# Altium integrated library Altera Cyclone.IntLib: 144 symbols (part 18 of 21)
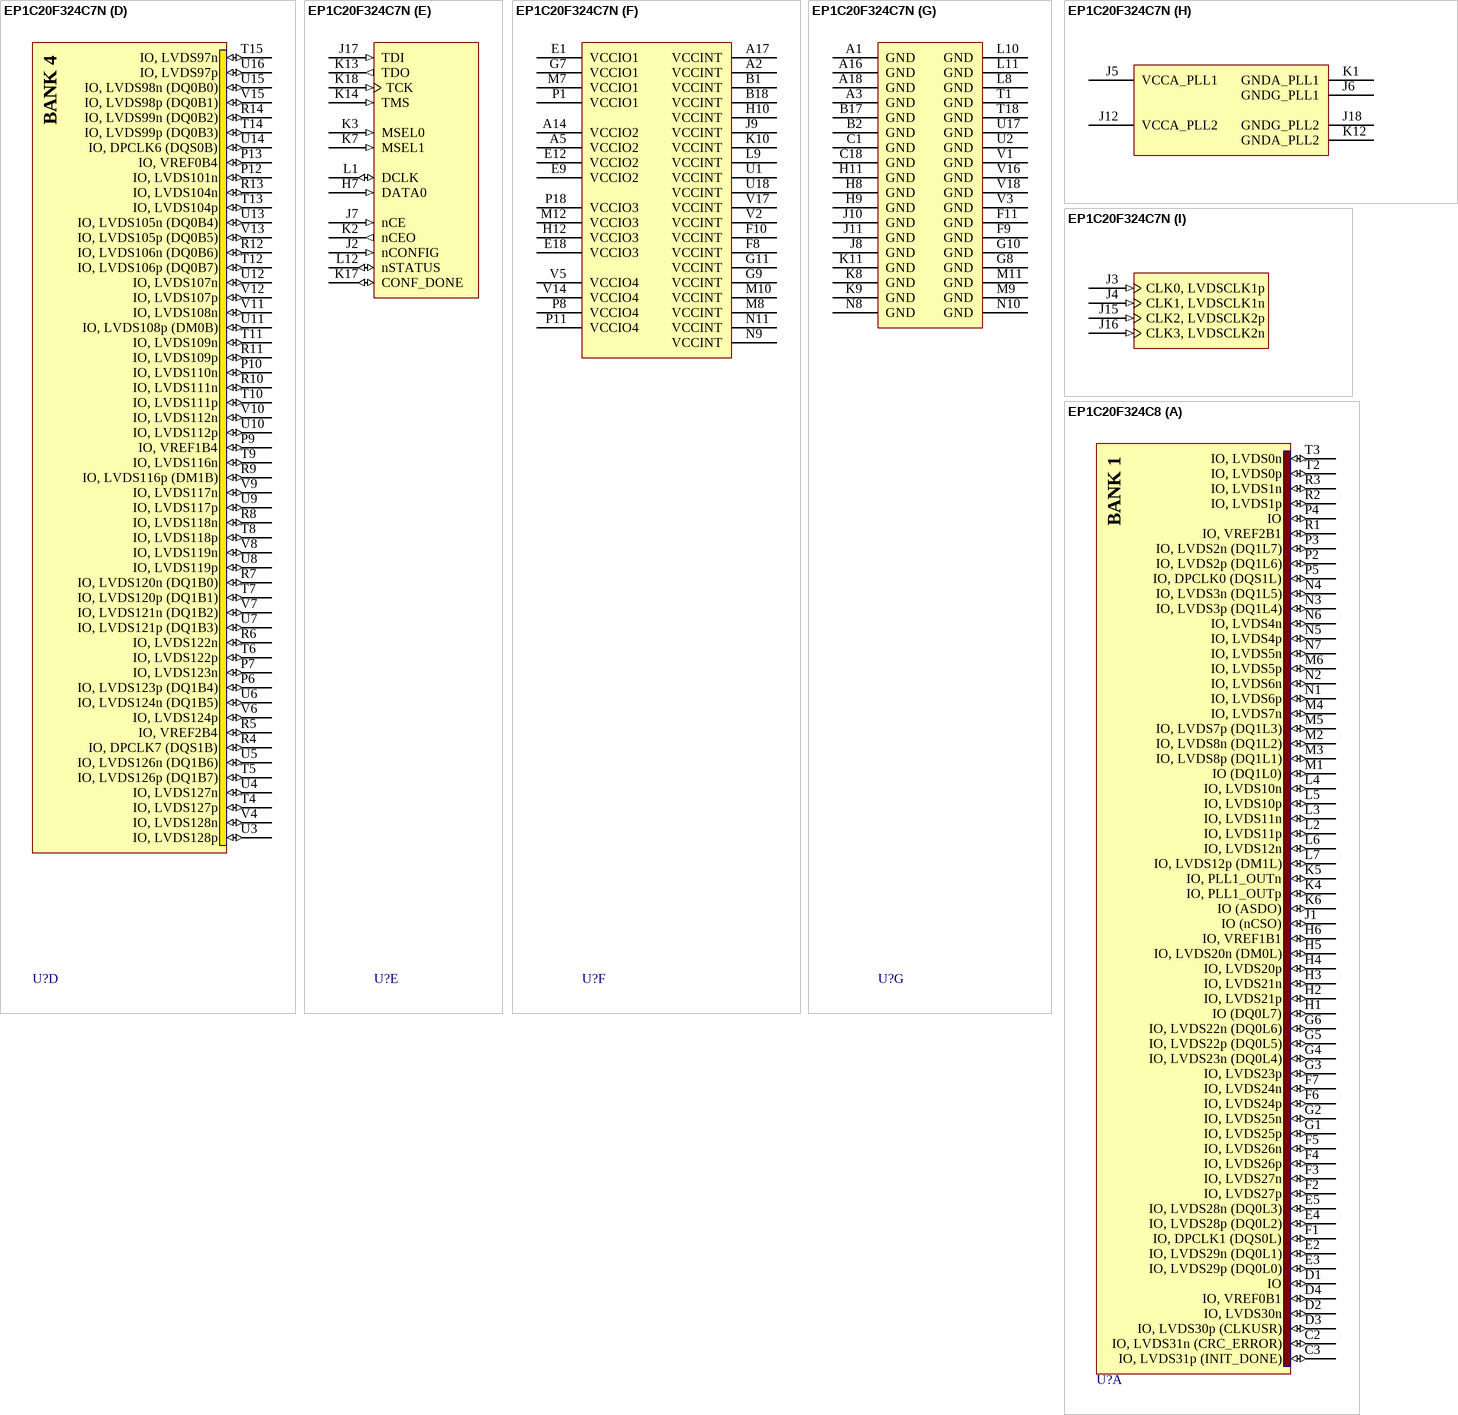
[diagram p170: symbols EP1C20F324C7N to EP1C20F324C8]

## EP1C20F324C7N
designator U?
Cyclone Family, 1.5V FPGA, 233 I/O Pins, 2 x PLLs, Commercial Grade, Speed Grade 7, Pb-Free; DatasheetVersion: ver2.4, May-2008; PackageVersion: ver16.0, Dec-2009; PackageReference: FBGA324; PackageDescription: 324-Ball FineLine Ball Grid Array (FBGA324) - Wire Bond; Code_JEDEC: MS-034-AAG-1; Code_IPC: BGA100P18X18-324; ComponentLink1Description: Manufacturer URL; ComponentLink1URL: http://www.altera.com/; ComponentLink2Description: Handbook; ComponentLink2URL: http://www.altera.com/literature/hb/cyc/cyc_c5v1.pdf; ComponentLink3Description: Package Specification; ComponentLink3URL: http://www.altera.com/literature/ds/dspkg.pdf
footprint FBGA324 (BGA, 324-Leads, Body 19x19mm, Pitch 1mm)
part A pins: C2 IO, LVDS31n (CRC_ERROR) (io), C3 IO, LVDS31p (INIT_DONE) (io), D1 IO (io), D2 IO, LVDS30n (io), D3 IO, LVDS30p (CLKUSR) (io), D4 IO, VREF0B1 (io), E2 IO, LVDS29n (DQ0L1) (io), E3 IO, LVDS29p (DQ0L0) (io), E4 IO, LVDS28p (DQ0L2) (io), E5 IO, LVDS28n (DQ0L3) (io), F1 IO, DPCLK1 (DQS0L) (io), F2 IO, LVDS27p (io), F3 IO, LVDS27n (io), F4 IO, LVDS26p (io), F5 IO, LVDS26n (io), F6 IO, LVDS24p (io), F7 IO, LVDS24n (io), G1 IO, LVDS25p (io), G2 IO, LVDS25n (io), G3 IO, LVDS23p (io), G4 IO, LVDS23n (DQ0L4) (io), G5 IO, LVDS22p (DQ0L5) (io), G6 IO, LVDS22n (DQ0L6) (io), H1 IO (DQ0L7) (io), H2 IO, LVDS21p (io), H3 IO, LVDS21n (io), H4 IO, LVDS20p (io), H5 IO, LVDS20n (DM0L) (io), H6 IO, VREF1B1 (io), J1 IO (nCSO) (io), K4 IO, PLL1_OUTp (io), K5 IO, PLL1_OUTn (io), K6 IO (ASDO) (io), L2 IO, LVDS11p (io), L3 IO, LVDS11n (io), L4 IO, LVDS10n (io), L5 IO, LVDS10p (io), L6 IO, LVDS12n (io), L7 IO, LVDS12p (DM1L) (io), M1 IO (DQ1L0) (io), M2 IO, LVDS8n (DQ1L2) (io), M3 IO, LVDS8p (DQ1L1) (io), M4 IO, LVDS7n (io), M5 IO, LVDS7p (DQ1L3) (io), M6 IO, LVDS5p (io), N1 IO, LVDS6p (io), N2 IO, LVDS6n (io), N3 IO, LVDS3p (DQ1L4) (io), N4 IO, LVDS3n (DQ1L5) (io), N5 IO, LVDS4p (io), N6 IO, LVDS4n (io), N7 IO, LVDS5n (io), P2 IO, LVDS2p (DQ1L6) (io), P3 IO, LVDS2n (DQ1L7) (io), P4 IO (io), P5 IO, DPCLK0 (DQS1L) (io), R1 IO, VREF2B1 (io), R2 IO, LVDS1p (io), R3 IO, LVDS1n (io), T2 IO, LVDS0p (io), T3 IO, LVDS0n (io)
part B pins: A4 IO, LVDS33n (DQ1T6) (io), A6 IO, VREF2B2 (io), A7 IO, LVDS39n (DQ1T2) (io), A8 IO, LVDS41n (io), A9 IO, LVDS43n (io), A10 IO, LVDS48p (io), A11 IO, LVDS51p (DM0T) (io), A12 IO, LVDS53p (io), A13 IO, LVDS56p (io), A15 IO, LVDS62p (DQ0T1) (io), B3 IO, LVDS32n (DEV_OE) (io), B4 IO, LVDS33p (DQ1T7) (io), B5 IO, DPCLK2 (DQS1T) (io), B6 IO, LVDS36n (io), B7 IO, LVDS39p (DQ1T3) (io), B8 IO, LVDS41p (io), B9 IO, LVDS43p (io), B10 IO, LVDS48n (io), B11 IO, LVDS51n (io), B12 IO, LVDS53n (io), B13 IO, LVDS56n (io), B14 IO, DPCLK3 (DQS0T) (io), B15 IO, LVDS62n (DQ0T0) (io), B16 IO, LVDS63p (io), C4 IO, LVDS32p (DEV_CLRn) (io), C5 IO, LVDS34n (DQ1T4) (io), C6 IO, LVDS36p (io), C7 IO, LVDS38p (io), C8 IO, LVDS42p (io), C9 IO, LVDS44p (io), C10 IO, LVDS49n (io), C11 IO, LVDS52n (io), C12 IO, LVDS54p (DQ0T7) (io), C13 IO, LVDS55p (DQ0T5) (io), C14 IO, VREF0B2 (io), C15 IO, LVDS61n (DQ0T2) (io), C16 IO, LVDS63n (io), D5 IO, LVDS34p (DQ1T5) (io), D6 IO, LVDS37p (io), D7 IO, LVDS38n (io), D8 IO, LVDS42n (io), D9 IO, LVDS44n (DM1T) (io), D10 IO, LVDS49p (io), D11 IO, LVDS52p (io), D12 IO, LVDS54n (DQ0T6) (io), D13 IO, LVDS55n (DQ0T4) (io), D14 IO, LVDS61p (DQ0T3) (io), E6 IO, LVDS37n (io), E7 IO, LVDS40p (DQ1T1) (io), E8 IO, LVDS40n (DQ1T0) (io), E10 IO, VREF1B2 (io), E11 IO, LVDS50n (io), E13 IO, LVDS59n (io)
part C pins: C17 IO, LVDS64n (io), D15 IO, LVDS65p (io), D16 IO, LVDS65n (io), D17 IO, LVDS64p (io), D18 IO (DQ0R0) (io), E14 IO, VREF0B3 (io), E15 IO, LVDS66p (DQ0R1) (io), E16 IO, LVDS66n (DQ0R2) (io), E17 IO, DPCLK4 (DQS0R) (io), F12 IO, LVDS70p (io), F13 IO, LVDS68n (io), F14 IO, LVDS68p (io), F15 IO, LVDS67p (DQ0R3) (io), F16 IO, LVDS67n (io), F17 IO, LVDS69p (io), F18 IO, LVDS69n (io), G12 IO, LVDS70n (io), G13 IO, LVDS72n (DQ0R4) (io), G14 IO, LVDS72p (io), G15 IO, LVDS71n (io), G16 IO, LVDS71p (io), G17 IO, LVDS73p (DQ0R5) (io), G18 IO, LVDS73n (DQ0R6) (io), H13 IO, LVDS76p (DM0R) (io), H14 IO, LVDS75n (io), H15 IO, LVDS75p (io), H16 IO, LVDS74n (io), H17 IO, LVDS74p (io), H18 IO (DQ0R7) (io), J13 IO, LVDS76n (io), J14 IO, VREF1B3 (io), K15 IO, PLL2_OUTp (io), K16 IO, PLL2_OUTn (io), L13 IO, LVDS85p (io), L14 IO (io), L15 IO, LVDS84p (io), L16 IO, LVDS84n (DM1R) (io), L17 IO, LVDS86p (io), L18 IO, LVDS86n (io), M13 IO, LVDS85n (io), M14 IO, LVDS88n (DQ1R2) (io), M15 IO, LVDS88p (DQ1R1) (io), M16 IO (DQ1R0) (io), M17 IO, LVDS89p (DQ1R3) (io), M18 IO, LVDS89n (io), N12 IO, LVDS91p (io), N13 IO, LVDS91n (io), N14 IO, LVDS93p (DQ1R4) (io), N15 IO, LVDS90p (io), N16 IO, LVDS90n (io), N17 IO, LVDS92p (io), N18 IO, LVDS92n (io), P14 IO, LVDS93n (DQ1R5) (io), P15 IO, DPCLK5 (DQS1R) (io), P16 IO, VREF2B3 (io), P17 IO (DQ1R6) (io), R15 IO, LVDS94n (DQ1R7) (io), R16 IO, LVDS94p (io), R17 IO, LVDS95n (io), R18 IO, LVDS95p (io), T16 IO, LVDS96n (io), T17 IO, LVDS96p (io)
part D pins: P6 IO, LVDS123p (DQ1B4) (io), P7 IO, LVDS123n (io), P9 IO, VREF1B4 (io), P10 IO, LVDS110n (io), P12 IO, LVDS101n (io), P13 IO, VREF0B4 (io), R4 IO, DPCLK7 (DQS1B) (io), R5 IO, VREF2B4 (io), R6 IO, LVDS122n (io), R7 IO, LVDS120n (DQ1B0) (io), R8 IO, LVDS118n (io), R9 IO, LVDS116p (DM1B) (io), R10 IO, LVDS111n (io), R11 IO, LVDS109p (io), R12 IO, LVDS106n (DQ0B6) (io), R13 IO, LVDS104n (io), R14 IO, LVDS99n (DQ0B2) (io), T4 IO, LVDS127p (io), T5 IO, LVDS126p (DQ1B7) (io), T6 IO, LVDS122p (io), T7 IO, LVDS120p (DQ1B1) (io), T8 IO, LVDS118p (io), T9 IO, LVDS116n (io), T10 IO, LVDS111p (io), T11 IO, LVDS109n (io), T12 IO, LVDS106p (DQ0B7) (io), T13 IO, LVDS104p (io), T14 IO, LVDS99p (DQ0B3) (io), T15 IO, LVDS97n (io), U3 IO, LVDS128p (io), U4 IO, LVDS127n (io), U5 IO, LVDS126n (DQ1B6) (io), U6 IO, LVDS124n (DQ1B5) (io), U7 IO, LVDS121p (DQ1B3) (io), U8 IO, LVDS119p (io), U9 IO, LVDS117p (io), U10 IO, LVDS112p (io), U11 IO, LVDS108p (DM0B) (io), U12 IO, LVDS107n (io), U13 IO, LVDS105n (DQ0B4) (io), U14 IO, DPCLK6 (DQS0B) (io), U15 IO, LVDS98n (DQ0B0) (io), U16 IO, LVDS97p (io), V4 IO, LVDS128n (io), V6 IO, LVDS124p (io), V7 IO, LVDS121n (DQ1B2) (io), V8 IO, LVDS119n (io), V9 IO, LVDS117n (io), V10 IO, LVDS112n (io), V11 IO, LVDS108n (io), V12 IO, LVDS107p (io), V13 IO, LVDS105p (DQ0B5) (io), V15 IO, LVDS98p (DQ0B1) (io)
part E pins: H7 DATA0 (in), J2 nCONFIG (in), J7 nCE (in), J17 TDI (in), K2 nCEO (out), K3 MSEL0 (in), K7 MSEL1 (in), K13 TDO (out), K14 TMS (in), K17 CONF_DONE (io), K18 TCK (in), L1 DCLK (io), L12 nSTATUS (io)
part F pins: A2 VCCINT (power), A5 VCCIO2 (power), A14 VCCIO2 (power), A17 VCCINT (power), B1 VCCINT (power), B18 VCCINT (power), E1 VCCIO1 (power), E9 VCCIO2 (power), E12 VCCIO2 (power), E18 VCCIO3 (power), F8 VCCINT (power), F10 VCCINT (power), G7 VCCIO1 (power), G9 VCCINT (power), G11 VCCINT (power), H10 VCCINT (power), H12 VCCIO3 (power), J9 VCCINT (power), K10 VCCINT (power), L9 VCCINT (power), M7 VCCIO1 (power), M8 VCCINT (power), M10 VCCINT (power), M12 VCCIO3 (power), N9 VCCINT (power), N11 VCCINT (power), P1 VCCIO1 (power), P8 VCCIO4 (power), P11 VCCIO4 (power), P18 VCCIO3 (power), U1 VCCINT (power), U18 VCCINT (power), V2 VCCINT (power), V5 VCCIO4 (power), V14 VCCIO4 (power), V17 VCCINT (power)
part G pins: A1 GND (power), A3 GND (power), A16 GND (power), A18 GND (power), B2 GND (power), B17 GND (power), C1 GND (power), C18 GND (power), F9 GND (power), F11 GND (power), G8 GND (power), G10 GND (power), H8 GND (power), H9 GND (power), H11 GND (power), J8 GND (power), J10 GND (power), J11 GND (power), K8 GND (power), K9 GND (power), K11 GND (power), L8 GND (power), L10 GND (power), L11 GND (power), M9 GND (power), M11 GND (power), N8 GND (power), N10 GND (power), T1 GND (power), T18 GND (power), U2 GND (power), U17 GND (power), V1 GND (power), V3 GND (power), V16 GND (power), V18 GND (power)
part H pins: J5 VCCA_PLL1 (power), J6 GNDG_PLL1 (power), J12 VCCA_PLL2 (power), J18 GNDG_PLL2 (power), K1 GNDA_PLL1 (power), K12 GNDA_PLL2 (power)
part I pins: J3 CLK0, LVDSCLK1p (in), J4 CLK1, LVDSCLK1n (in), J15 CLK2, LVDSCLK2p (in), J16 CLK3, LVDSCLK2n (in)
part A text: BANK 1
part B text: BANK 2
part C text: BANK 3
part D text: BANK 4

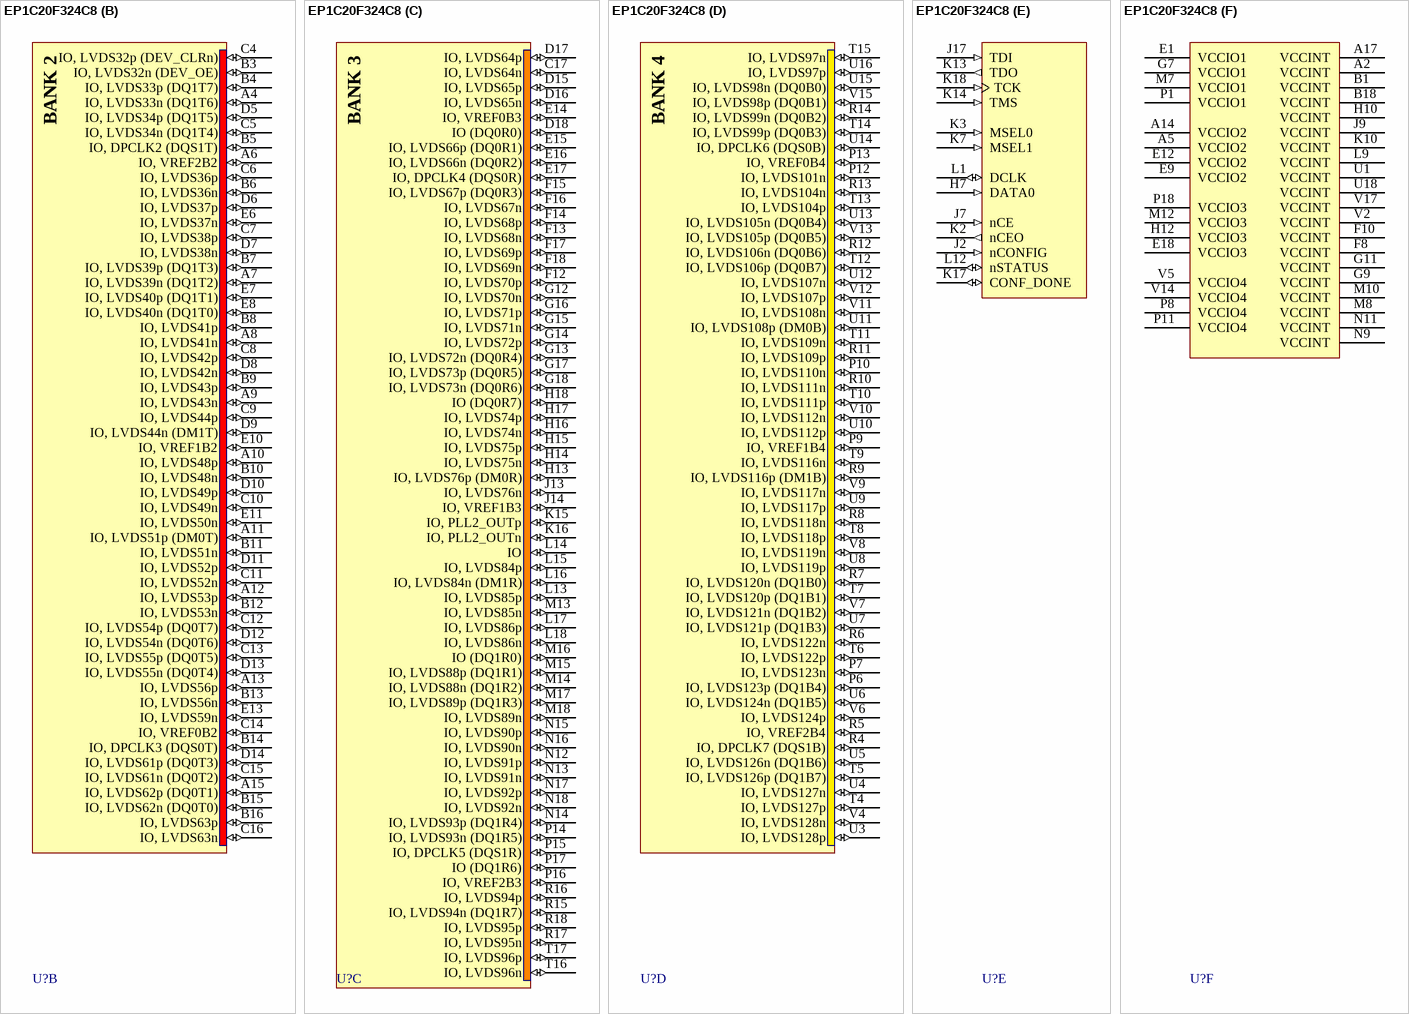
[diagram p125: symbol EP1C20F324C8]

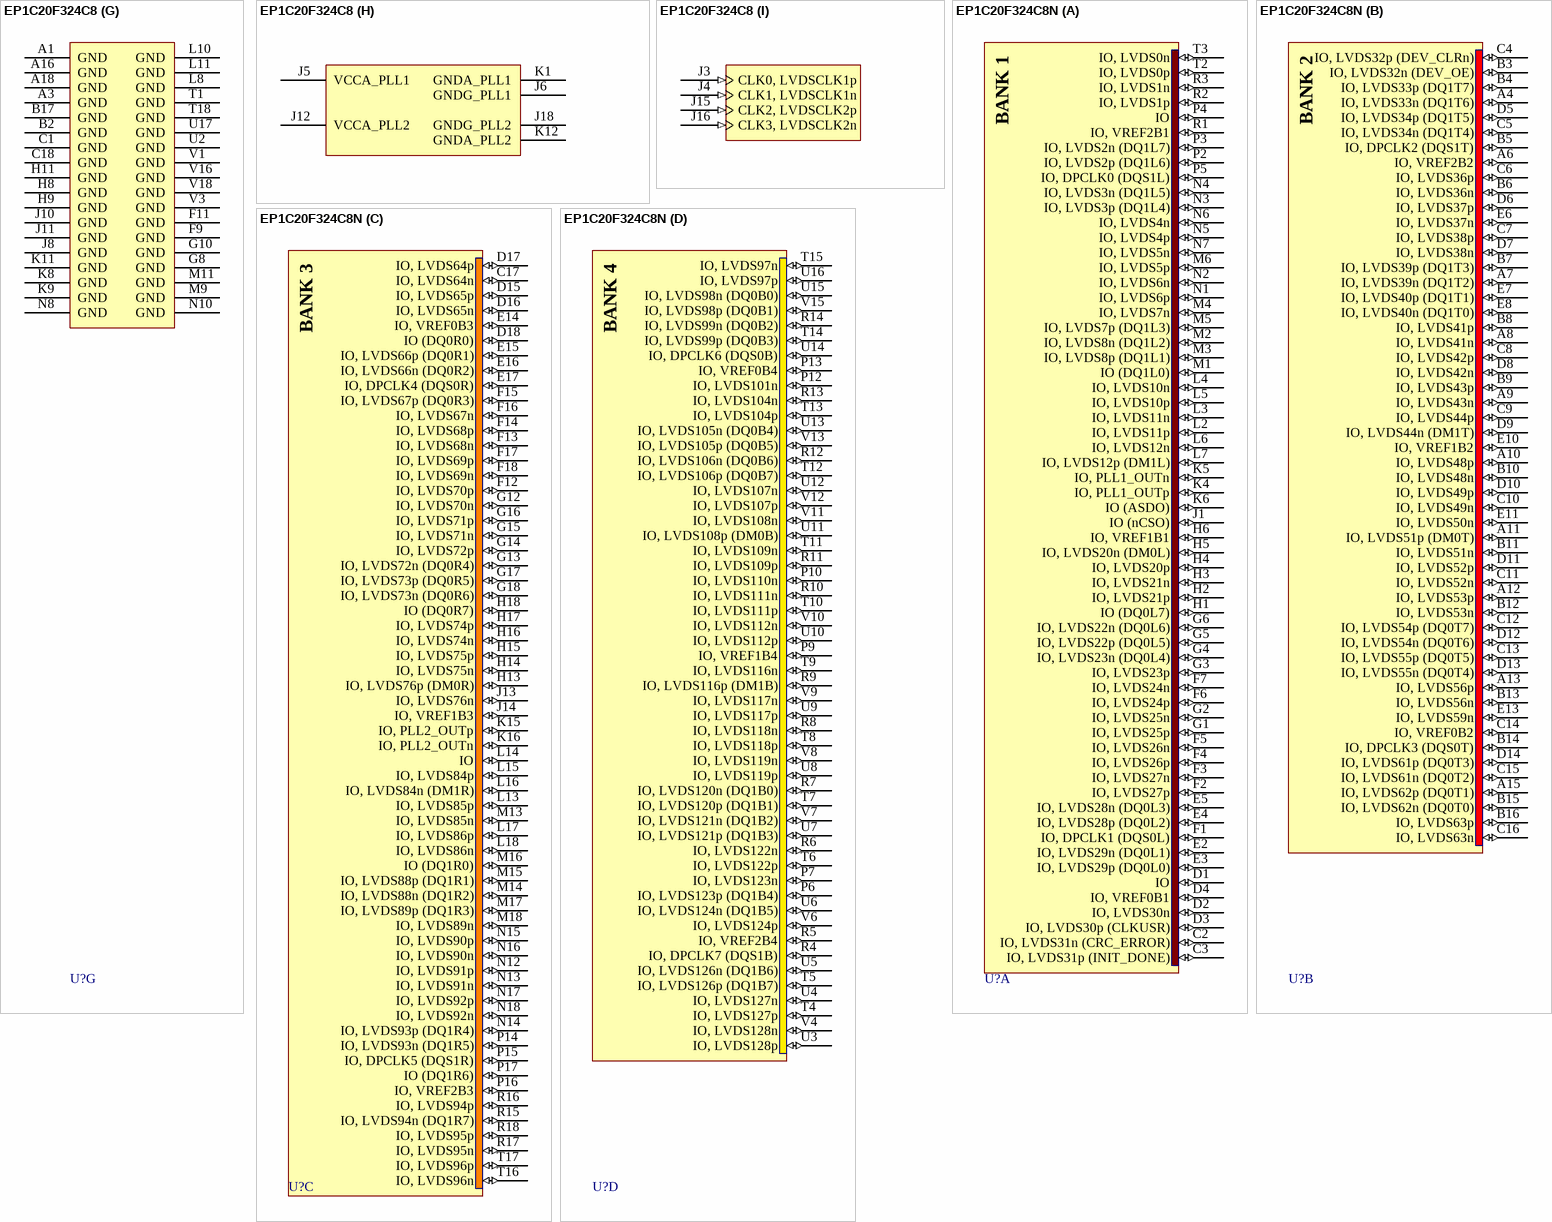
[diagram p126: symbols EP1C20F324C8 to EP1C20F324C8N]

## EP1C20F324C8
designator U?
Cyclone Family, 1.5V FPGA, 233 I/O Pins, 2 x PLLs, Commercial Grade, Speed Grade 8; DatasheetVersion: ver2.4, May-2008; PackageVersion: ver16.0, Dec-2009; PackageReference: FBGA324; PackageDescription: 324-Ball FineLine Ball Grid Array (FBGA324) - Wire Bond; Code_JEDEC: MS-034-AAG-1; Code_IPC: BGA100P18X18-324; ComponentLink1Description: Manufacturer URL; ComponentLink1URL: http://www.altera.com/; ComponentLink2Description: Handbook; ComponentLink2URL: http://www.altera.com/literature/hb/cyc/cyc_c5v1.pdf; ComponentLink3Description: Package Specification; ComponentLink3URL: http://www.altera.com/literature/ds/dspkg.pdf
footprint FBGA324 (BGA, 324-Leads, Body 19x19mm, Pitch 1mm)
part A pins: C2 IO, LVDS31n (CRC_ERROR) (io), C3 IO, LVDS31p (INIT_DONE) (io), D1 IO (io), D2 IO, LVDS30n (io), D3 IO, LVDS30p (CLKUSR) (io), D4 IO, VREF0B1 (io), E2 IO, LVDS29n (DQ0L1) (io), E3 IO, LVDS29p (DQ0L0) (io), E4 IO, LVDS28p (DQ0L2) (io), E5 IO, LVDS28n (DQ0L3) (io), F1 IO, DPCLK1 (DQS0L) (io), F2 IO, LVDS27p (io), F3 IO, LVDS27n (io), F4 IO, LVDS26p (io), F5 IO, LVDS26n (io), F6 IO, LVDS24p (io), F7 IO, LVDS24n (io), G1 IO, LVDS25p (io), G2 IO, LVDS25n (io), G3 IO, LVDS23p (io), G4 IO, LVDS23n (DQ0L4) (io), G5 IO, LVDS22p (DQ0L5) (io), G6 IO, LVDS22n (DQ0L6) (io), H1 IO (DQ0L7) (io), H2 IO, LVDS21p (io), H3 IO, LVDS21n (io), H4 IO, LVDS20p (io), H5 IO, LVDS20n (DM0L) (io), H6 IO, VREF1B1 (io), J1 IO (nCSO) (io), K4 IO, PLL1_OUTp (io), K5 IO, PLL1_OUTn (io), K6 IO (ASDO) (io), L2 IO, LVDS11p (io), L3 IO, LVDS11n (io), L4 IO, LVDS10n (io), L5 IO, LVDS10p (io), L6 IO, LVDS12n (io), L7 IO, LVDS12p (DM1L) (io), M1 IO (DQ1L0) (io), M2 IO, LVDS8n (DQ1L2) (io), M3 IO, LVDS8p (DQ1L1) (io), M4 IO, LVDS7n (io), M5 IO, LVDS7p (DQ1L3) (io), M6 IO, LVDS5p (io), N1 IO, LVDS6p (io), N2 IO, LVDS6n (io), N3 IO, LVDS3p (DQ1L4) (io), N4 IO, LVDS3n (DQ1L5) (io), N5 IO, LVDS4p (io), N6 IO, LVDS4n (io), N7 IO, LVDS5n (io), P2 IO, LVDS2p (DQ1L6) (io), P3 IO, LVDS2n (DQ1L7) (io), P4 IO (io), P5 IO, DPCLK0 (DQS1L) (io), R1 IO, VREF2B1 (io), R2 IO, LVDS1p (io), R3 IO, LVDS1n (io), T2 IO, LVDS0p (io), T3 IO, LVDS0n (io)
part B pins: A4 IO, LVDS33n (DQ1T6) (io), A6 IO, VREF2B2 (io), A7 IO, LVDS39n (DQ1T2) (io), A8 IO, LVDS41n (io), A9 IO, LVDS43n (io), A10 IO, LVDS48p (io), A11 IO, LVDS51p (DM0T) (io), A12 IO, LVDS53p (io), A13 IO, LVDS56p (io), A15 IO, LVDS62p (DQ0T1) (io), B3 IO, LVDS32n (DEV_OE) (io), B4 IO, LVDS33p (DQ1T7) (io), B5 IO, DPCLK2 (DQS1T) (io), B6 IO, LVDS36n (io), B7 IO, LVDS39p (DQ1T3) (io), B8 IO, LVDS41p (io), B9 IO, LVDS43p (io), B10 IO, LVDS48n (io), B11 IO, LVDS51n (io), B12 IO, LVDS53n (io), B13 IO, LVDS56n (io), B14 IO, DPCLK3 (DQS0T) (io), B15 IO, LVDS62n (DQ0T0) (io), B16 IO, LVDS63p (io), C4 IO, LVDS32p (DEV_CLRn) (io), C5 IO, LVDS34n (DQ1T4) (io), C6 IO, LVDS36p (io), C7 IO, LVDS38p (io), C8 IO, LVDS42p (io), C9 IO, LVDS44p (io), C10 IO, LVDS49n (io), C11 IO, LVDS52n (io), C12 IO, LVDS54p (DQ0T7) (io), C13 IO, LVDS55p (DQ0T5) (io), C14 IO, VREF0B2 (io), C15 IO, LVDS61n (DQ0T2) (io), C16 IO, LVDS63n (io), D5 IO, LVDS34p (DQ1T5) (io), D6 IO, LVDS37p (io), D7 IO, LVDS38n (io), D8 IO, LVDS42n (io), D9 IO, LVDS44n (DM1T) (io), D10 IO, LVDS49p (io), D11 IO, LVDS52p (io), D12 IO, LVDS54n (DQ0T6) (io), D13 IO, LVDS55n (DQ0T4) (io), D14 IO, LVDS61p (DQ0T3) (io), E6 IO, LVDS37n (io), E7 IO, LVDS40p (DQ1T1) (io), E8 IO, LVDS40n (DQ1T0) (io), E10 IO, VREF1B2 (io), E11 IO, LVDS50n (io), E13 IO, LVDS59n (io)
part C pins: C17 IO, LVDS64n (io), D15 IO, LVDS65p (io), D16 IO, LVDS65n (io), D17 IO, LVDS64p (io), D18 IO (DQ0R0) (io), E14 IO, VREF0B3 (io), E15 IO, LVDS66p (DQ0R1) (io), E16 IO, LVDS66n (DQ0R2) (io), E17 IO, DPCLK4 (DQS0R) (io), F12 IO, LVDS70p (io), F13 IO, LVDS68n (io), F14 IO, LVDS68p (io), F15 IO, LVDS67p (DQ0R3) (io), F16 IO, LVDS67n (io), F17 IO, LVDS69p (io), F18 IO, LVDS69n (io), G12 IO, LVDS70n (io), G13 IO, LVDS72n (DQ0R4) (io), G14 IO, LVDS72p (io), G15 IO, LVDS71n (io), G16 IO, LVDS71p (io), G17 IO, LVDS73p (DQ0R5) (io), G18 IO, LVDS73n (DQ0R6) (io), H13 IO, LVDS76p (DM0R) (io), H14 IO, LVDS75n (io), H15 IO, LVDS75p (io), H16 IO, LVDS74n (io), H17 IO, LVDS74p (io), H18 IO (DQ0R7) (io), J13 IO, LVDS76n (io), J14 IO, VREF1B3 (io), K15 IO, PLL2_OUTp (io), K16 IO, PLL2_OUTn (io), L13 IO, LVDS85p (io), L14 IO (io), L15 IO, LVDS84p (io), L16 IO, LVDS84n (DM1R) (io), L17 IO, LVDS86p (io), L18 IO, LVDS86n (io), M13 IO, LVDS85n (io), M14 IO, LVDS88n (DQ1R2) (io), M15 IO, LVDS88p (DQ1R1) (io), M16 IO (DQ1R0) (io), M17 IO, LVDS89p (DQ1R3) (io), M18 IO, LVDS89n (io), N12 IO, LVDS91p (io), N13 IO, LVDS91n (io), N14 IO, LVDS93p (DQ1R4) (io), N15 IO, LVDS90p (io), N16 IO, LVDS90n (io), N17 IO, LVDS92p (io), N18 IO, LVDS92n (io), P14 IO, LVDS93n (DQ1R5) (io), P15 IO, DPCLK5 (DQS1R) (io), P16 IO, VREF2B3 (io), P17 IO (DQ1R6) (io), R15 IO, LVDS94n (DQ1R7) (io), R16 IO, LVDS94p (io), R17 IO, LVDS95n (io), R18 IO, LVDS95p (io), T16 IO, LVDS96n (io), T17 IO, LVDS96p (io)
part D pins: P6 IO, LVDS123p (DQ1B4) (io), P7 IO, LVDS123n (io), P9 IO, VREF1B4 (io), P10 IO, LVDS110n (io), P12 IO, LVDS101n (io), P13 IO, VREF0B4 (io), R4 IO, DPCLK7 (DQS1B) (io), R5 IO, VREF2B4 (io), R6 IO, LVDS122n (io), R7 IO, LVDS120n (DQ1B0) (io), R8 IO, LVDS118n (io), R9 IO, LVDS116p (DM1B) (io), R10 IO, LVDS111n (io), R11 IO, LVDS109p (io), R12 IO, LVDS106n (DQ0B6) (io), R13 IO, LVDS104n (io), R14 IO, LVDS99n (DQ0B2) (io), T4 IO, LVDS127p (io), T5 IO, LVDS126p (DQ1B7) (io), T6 IO, LVDS122p (io), T7 IO, LVDS120p (DQ1B1) (io), T8 IO, LVDS118p (io), T9 IO, LVDS116n (io), T10 IO, LVDS111p (io), T11 IO, LVDS109n (io), T12 IO, LVDS106p (DQ0B7) (io), T13 IO, LVDS104p (io), T14 IO, LVDS99p (DQ0B3) (io), T15 IO, LVDS97n (io), U3 IO, LVDS128p (io), U4 IO, LVDS127n (io), U5 IO, LVDS126n (DQ1B6) (io), U6 IO, LVDS124n (DQ1B5) (io), U7 IO, LVDS121p (DQ1B3) (io), U8 IO, LVDS119p (io), U9 IO, LVDS117p (io), U10 IO, LVDS112p (io), U11 IO, LVDS108p (DM0B) (io), U12 IO, LVDS107n (io), U13 IO, LVDS105n (DQ0B4) (io), U14 IO, DPCLK6 (DQS0B) (io), U15 IO, LVDS98n (DQ0B0) (io), U16 IO, LVDS97p (io), V4 IO, LVDS128n (io), V6 IO, LVDS124p (io), V7 IO, LVDS121n (DQ1B2) (io), V8 IO, LVDS119n (io), V9 IO, LVDS117n (io), V10 IO, LVDS112n (io), V11 IO, LVDS108n (io), V12 IO, LVDS107p (io), V13 IO, LVDS105p (DQ0B5) (io), V15 IO, LVDS98p (DQ0B1) (io)
part E pins: H7 DATA0 (in), J2 nCONFIG (in), J7 nCE (in), J17 TDI (in), K2 nCEO (out), K3 MSEL0 (in), K7 MSEL1 (in), K13 TDO (out), K14 TMS (in), K17 CONF_DONE (io), K18 TCK (in), L1 DCLK (io), L12 nSTATUS (io)
part F pins: A2 VCCINT (power), A5 VCCIO2 (power), A14 VCCIO2 (power), A17 VCCINT (power), B1 VCCINT (power), B18 VCCINT (power), E1 VCCIO1 (power), E9 VCCIO2 (power), E12 VCCIO2 (power), E18 VCCIO3 (power), F8 VCCINT (power), F10 VCCINT (power), G7 VCCIO1 (power), G9 VCCINT (power), G11 VCCINT (power), H10 VCCINT (power), H12 VCCIO3 (power), J9 VCCINT (power), K10 VCCINT (power), L9 VCCINT (power), M7 VCCIO1 (power), M8 VCCINT (power), M10 VCCINT (power), M12 VCCIO3 (power), N9 VCCINT (power), N11 VCCINT (power), P1 VCCIO1 (power), P8 VCCIO4 (power), P11 VCCIO4 (power), P18 VCCIO3 (power), U1 VCCINT (power), U18 VCCINT (power), V2 VCCINT (power), V5 VCCIO4 (power), V14 VCCIO4 (power), V17 VCCINT (power)
part G pins: A1 GND (power), A3 GND (power), A16 GND (power), A18 GND (power), B2 GND (power), B17 GND (power), C1 GND (power), C18 GND (power), F9 GND (power), F11 GND (power), G8 GND (power), G10 GND (power), H8 GND (power), H9 GND (power), H11 GND (power), J8 GND (power), J10 GND (power), J11 GND (power), K8 GND (power), K9 GND (power), K11 GND (power), L8 GND (power), L10 GND (power), L11 GND (power), M9 GND (power), M11 GND (power), N8 GND (power), N10 GND (power), T1 GND (power), T18 GND (power), U2 GND (power), U17 GND (power), V1 GND (power), V3 GND (power), V16 GND (power), V18 GND (power)
part H pins: J5 VCCA_PLL1 (power), J6 GNDG_PLL1 (power), J12 VCCA_PLL2 (power), J18 GNDG_PLL2 (power), K1 GNDA_PLL1 (power), K12 GNDA_PLL2 (power)
part I pins: J3 CLK0, LVDSCLK1p (in), J4 CLK1, LVDSCLK1n (in), J15 CLK2, LVDSCLK2p (in), J16 CLK3, LVDSCLK2n (in)
part A text: BANK 1
part B text: BANK 2
part C text: BANK 3
part D text: BANK 4

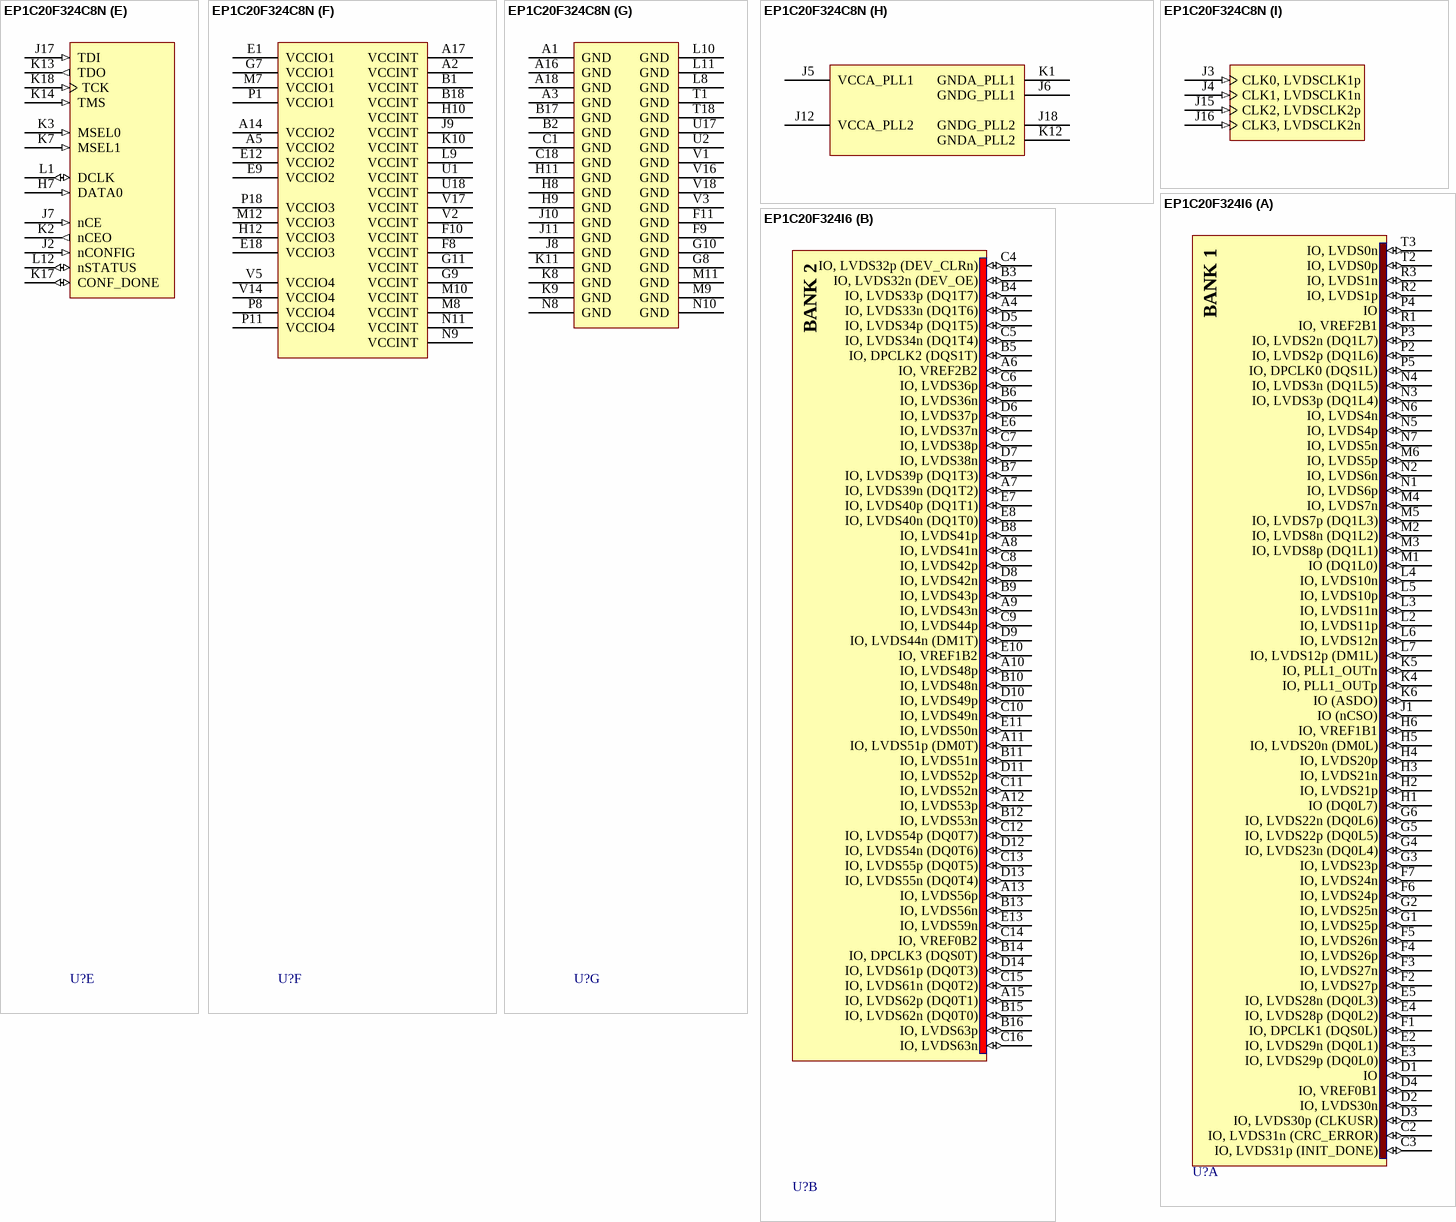
[diagram p127: symbols EP1C20F324C8N to EP1C20F324I6]

## EP1C20F324C8N
designator U?
Cyclone Family, 1.5V FPGA, 233 I/O Pins, 2 x PLLs, Commercial Grade, Speed Grade 8, Pb-Free; DatasheetVersion: ver2.4, May-2008; PackageVersion: ver16.0, Dec-2009; PackageReference: FBGA324; PackageDescription: 324-Ball FineLine Ball Grid Array (FBGA324) - Wire Bond; Code_JEDEC: MS-034-AAG-1; Code_IPC: BGA100P18X18-324; ComponentLink1Description: Manufacturer URL; ComponentLink1URL: http://www.altera.com/; ComponentLink2Description: Handbook; ComponentLink2URL: http://www.altera.com/literature/hb/cyc/cyc_c5v1.pdf; ComponentLink3Description: Package Specification; ComponentLink3URL: http://www.altera.com/literature/ds/dspkg.pdf
footprint FBGA324 (BGA, 324-Leads, Body 19x19mm, Pitch 1mm)
part A pins: C2 IO, LVDS31n (CRC_ERROR) (io), C3 IO, LVDS31p (INIT_DONE) (io), D1 IO (io), D2 IO, LVDS30n (io), D3 IO, LVDS30p (CLKUSR) (io), D4 IO, VREF0B1 (io), E2 IO, LVDS29n (DQ0L1) (io), E3 IO, LVDS29p (DQ0L0) (io), E4 IO, LVDS28p (DQ0L2) (io), E5 IO, LVDS28n (DQ0L3) (io), F1 IO, DPCLK1 (DQS0L) (io), F2 IO, LVDS27p (io), F3 IO, LVDS27n (io), F4 IO, LVDS26p (io), F5 IO, LVDS26n (io), F6 IO, LVDS24p (io), F7 IO, LVDS24n (io), G1 IO, LVDS25p (io), G2 IO, LVDS25n (io), G3 IO, LVDS23p (io), G4 IO, LVDS23n (DQ0L4) (io), G5 IO, LVDS22p (DQ0L5) (io), G6 IO, LVDS22n (DQ0L6) (io), H1 IO (DQ0L7) (io), H2 IO, LVDS21p (io), H3 IO, LVDS21n (io), H4 IO, LVDS20p (io), H5 IO, LVDS20n (DM0L) (io), H6 IO, VREF1B1 (io), J1 IO (nCSO) (io), K4 IO, PLL1_OUTp (io), K5 IO, PLL1_OUTn (io), K6 IO (ASDO) (io), L2 IO, LVDS11p (io), L3 IO, LVDS11n (io), L4 IO, LVDS10n (io), L5 IO, LVDS10p (io), L6 IO, LVDS12n (io), L7 IO, LVDS12p (DM1L) (io), M1 IO (DQ1L0) (io), M2 IO, LVDS8n (DQ1L2) (io), M3 IO, LVDS8p (DQ1L1) (io), M4 IO, LVDS7n (io), M5 IO, LVDS7p (DQ1L3) (io), M6 IO, LVDS5p (io), N1 IO, LVDS6p (io), N2 IO, LVDS6n (io), N3 IO, LVDS3p (DQ1L4) (io), N4 IO, LVDS3n (DQ1L5) (io), N5 IO, LVDS4p (io), N6 IO, LVDS4n (io), N7 IO, LVDS5n (io), P2 IO, LVDS2p (DQ1L6) (io), P3 IO, LVDS2n (DQ1L7) (io), P4 IO (io), P5 IO, DPCLK0 (DQS1L) (io), R1 IO, VREF2B1 (io), R2 IO, LVDS1p (io), R3 IO, LVDS1n (io), T2 IO, LVDS0p (io), T3 IO, LVDS0n (io)
part B pins: A4 IO, LVDS33n (DQ1T6) (io), A6 IO, VREF2B2 (io), A7 IO, LVDS39n (DQ1T2) (io), A8 IO, LVDS41n (io), A9 IO, LVDS43n (io), A10 IO, LVDS48p (io), A11 IO, LVDS51p (DM0T) (io), A12 IO, LVDS53p (io), A13 IO, LVDS56p (io), A15 IO, LVDS62p (DQ0T1) (io), B3 IO, LVDS32n (DEV_OE) (io), B4 IO, LVDS33p (DQ1T7) (io), B5 IO, DPCLK2 (DQS1T) (io), B6 IO, LVDS36n (io), B7 IO, LVDS39p (DQ1T3) (io), B8 IO, LVDS41p (io), B9 IO, LVDS43p (io), B10 IO, LVDS48n (io), B11 IO, LVDS51n (io), B12 IO, LVDS53n (io), B13 IO, LVDS56n (io), B14 IO, DPCLK3 (DQS0T) (io), B15 IO, LVDS62n (DQ0T0) (io), B16 IO, LVDS63p (io), C4 IO, LVDS32p (DEV_CLRn) (io), C5 IO, LVDS34n (DQ1T4) (io), C6 IO, LVDS36p (io), C7 IO, LVDS38p (io), C8 IO, LVDS42p (io), C9 IO, LVDS44p (io), C10 IO, LVDS49n (io), C11 IO, LVDS52n (io), C12 IO, LVDS54p (DQ0T7) (io), C13 IO, LVDS55p (DQ0T5) (io), C14 IO, VREF0B2 (io), C15 IO, LVDS61n (DQ0T2) (io), C16 IO, LVDS63n (io), D5 IO, LVDS34p (DQ1T5) (io), D6 IO, LVDS37p (io), D7 IO, LVDS38n (io), D8 IO, LVDS42n (io), D9 IO, LVDS44n (DM1T) (io), D10 IO, LVDS49p (io), D11 IO, LVDS52p (io), D12 IO, LVDS54n (DQ0T6) (io), D13 IO, LVDS55n (DQ0T4) (io), D14 IO, LVDS61p (DQ0T3) (io), E6 IO, LVDS37n (io), E7 IO, LVDS40p (DQ1T1) (io), E8 IO, LVDS40n (DQ1T0) (io), E10 IO, VREF1B2 (io), E11 IO, LVDS50n (io), E13 IO, LVDS59n (io)
part C pins: C17 IO, LVDS64n (io), D15 IO, LVDS65p (io), D16 IO, LVDS65n (io), D17 IO, LVDS64p (io), D18 IO (DQ0R0) (io), E14 IO, VREF0B3 (io), E15 IO, LVDS66p (DQ0R1) (io), E16 IO, LVDS66n (DQ0R2) (io), E17 IO, DPCLK4 (DQS0R) (io), F12 IO, LVDS70p (io), F13 IO, LVDS68n (io), F14 IO, LVDS68p (io), F15 IO, LVDS67p (DQ0R3) (io), F16 IO, LVDS67n (io), F17 IO, LVDS69p (io), F18 IO, LVDS69n (io), G12 IO, LVDS70n (io), G13 IO, LVDS72n (DQ0R4) (io), G14 IO, LVDS72p (io), G15 IO, LVDS71n (io), G16 IO, LVDS71p (io), G17 IO, LVDS73p (DQ0R5) (io), G18 IO, LVDS73n (DQ0R6) (io), H13 IO, LVDS76p (DM0R) (io), H14 IO, LVDS75n (io), H15 IO, LVDS75p (io), H16 IO, LVDS74n (io), H17 IO, LVDS74p (io), H18 IO (DQ0R7) (io), J13 IO, LVDS76n (io), J14 IO, VREF1B3 (io), K15 IO, PLL2_OUTp (io), K16 IO, PLL2_OUTn (io), L13 IO, LVDS85p (io), L14 IO (io), L15 IO, LVDS84p (io), L16 IO, LVDS84n (DM1R) (io), L17 IO, LVDS86p (io), L18 IO, LVDS86n (io), M13 IO, LVDS85n (io), M14 IO, LVDS88n (DQ1R2) (io), M15 IO, LVDS88p (DQ1R1) (io), M16 IO (DQ1R0) (io), M17 IO, LVDS89p (DQ1R3) (io), M18 IO, LVDS89n (io), N12 IO, LVDS91p (io), N13 IO, LVDS91n (io), N14 IO, LVDS93p (DQ1R4) (io), N15 IO, LVDS90p (io), N16 IO, LVDS90n (io), N17 IO, LVDS92p (io), N18 IO, LVDS92n (io), P14 IO, LVDS93n (DQ1R5) (io), P15 IO, DPCLK5 (DQS1R) (io), P16 IO, VREF2B3 (io), P17 IO (DQ1R6) (io), R15 IO, LVDS94n (DQ1R7) (io), R16 IO, LVDS94p (io), R17 IO, LVDS95n (io), R18 IO, LVDS95p (io), T16 IO, LVDS96n (io), T17 IO, LVDS96p (io)
part D pins: P6 IO, LVDS123p (DQ1B4) (io), P7 IO, LVDS123n (io), P9 IO, VREF1B4 (io), P10 IO, LVDS110n (io), P12 IO, LVDS101n (io), P13 IO, VREF0B4 (io), R4 IO, DPCLK7 (DQS1B) (io), R5 IO, VREF2B4 (io), R6 IO, LVDS122n (io), R7 IO, LVDS120n (DQ1B0) (io), R8 IO, LVDS118n (io), R9 IO, LVDS116p (DM1B) (io), R10 IO, LVDS111n (io), R11 IO, LVDS109p (io), R12 IO, LVDS106n (DQ0B6) (io), R13 IO, LVDS104n (io), R14 IO, LVDS99n (DQ0B2) (io), T4 IO, LVDS127p (io), T5 IO, LVDS126p (DQ1B7) (io), T6 IO, LVDS122p (io), T7 IO, LVDS120p (DQ1B1) (io), T8 IO, LVDS118p (io), T9 IO, LVDS116n (io), T10 IO, LVDS111p (io), T11 IO, LVDS109n (io), T12 IO, LVDS106p (DQ0B7) (io), T13 IO, LVDS104p (io), T14 IO, LVDS99p (DQ0B3) (io), T15 IO, LVDS97n (io), U3 IO, LVDS128p (io), U4 IO, LVDS127n (io), U5 IO, LVDS126n (DQ1B6) (io), U6 IO, LVDS124n (DQ1B5) (io), U7 IO, LVDS121p (DQ1B3) (io), U8 IO, LVDS119p (io), U9 IO, LVDS117p (io), U10 IO, LVDS112p (io), U11 IO, LVDS108p (DM0B) (io), U12 IO, LVDS107n (io), U13 IO, LVDS105n (DQ0B4) (io), U14 IO, DPCLK6 (DQS0B) (io), U15 IO, LVDS98n (DQ0B0) (io), U16 IO, LVDS97p (io), V4 IO, LVDS128n (io), V6 IO, LVDS124p (io), V7 IO, LVDS121n (DQ1B2) (io), V8 IO, LVDS119n (io), V9 IO, LVDS117n (io), V10 IO, LVDS112n (io), V11 IO, LVDS108n (io), V12 IO, LVDS107p (io), V13 IO, LVDS105p (DQ0B5) (io), V15 IO, LVDS98p (DQ0B1) (io)
part E pins: H7 DATA0 (in), J2 nCONFIG (in), J7 nCE (in), J17 TDI (in), K2 nCEO (out), K3 MSEL0 (in), K7 MSEL1 (in), K13 TDO (out), K14 TMS (in), K17 CONF_DONE (io), K18 TCK (in), L1 DCLK (io), L12 nSTATUS (io)
part F pins: A2 VCCINT (power), A5 VCCIO2 (power), A14 VCCIO2 (power), A17 VCCINT (power), B1 VCCINT (power), B18 VCCINT (power), E1 VCCIO1 (power), E9 VCCIO2 (power), E12 VCCIO2 (power), E18 VCCIO3 (power), F8 VCCINT (power), F10 VCCINT (power), G7 VCCIO1 (power), G9 VCCINT (power), G11 VCCINT (power), H10 VCCINT (power), H12 VCCIO3 (power), J9 VCCINT (power), K10 VCCINT (power), L9 VCCINT (power), M7 VCCIO1 (power), M8 VCCINT (power), M10 VCCINT (power), M12 VCCIO3 (power), N9 VCCINT (power), N11 VCCINT (power), P1 VCCIO1 (power), P8 VCCIO4 (power), P11 VCCIO4 (power), P18 VCCIO3 (power), U1 VCCINT (power), U18 VCCINT (power), V2 VCCINT (power), V5 VCCIO4 (power), V14 VCCIO4 (power), V17 VCCINT (power)
part G pins: A1 GND (power), A3 GND (power), A16 GND (power), A18 GND (power), B2 GND (power), B17 GND (power), C1 GND (power), C18 GND (power), F9 GND (power), F11 GND (power), G8 GND (power), G10 GND (power), H8 GND (power), H9 GND (power), H11 GND (power), J8 GND (power), J10 GND (power), J11 GND (power), K8 GND (power), K9 GND (power), K11 GND (power), L8 GND (power), L10 GND (power), L11 GND (power), M9 GND (power), M11 GND (power), N8 GND (power), N10 GND (power), T1 GND (power), T18 GND (power), U2 GND (power), U17 GND (power), V1 GND (power), V3 GND (power), V16 GND (power), V18 GND (power)
part H pins: J5 VCCA_PLL1 (power), J6 GNDG_PLL1 (power), J12 VCCA_PLL2 (power), J18 GNDG_PLL2 (power), K1 GNDA_PLL1 (power), K12 GNDA_PLL2 (power)
part I pins: J3 CLK0, LVDSCLK1p (in), J4 CLK1, LVDSCLK1n (in), J15 CLK2, LVDSCLK2p (in), J16 CLK3, LVDSCLK2n (in)
part A text: BANK 1
part B text: BANK 2
part C text: BANK 3
part D text: BANK 4

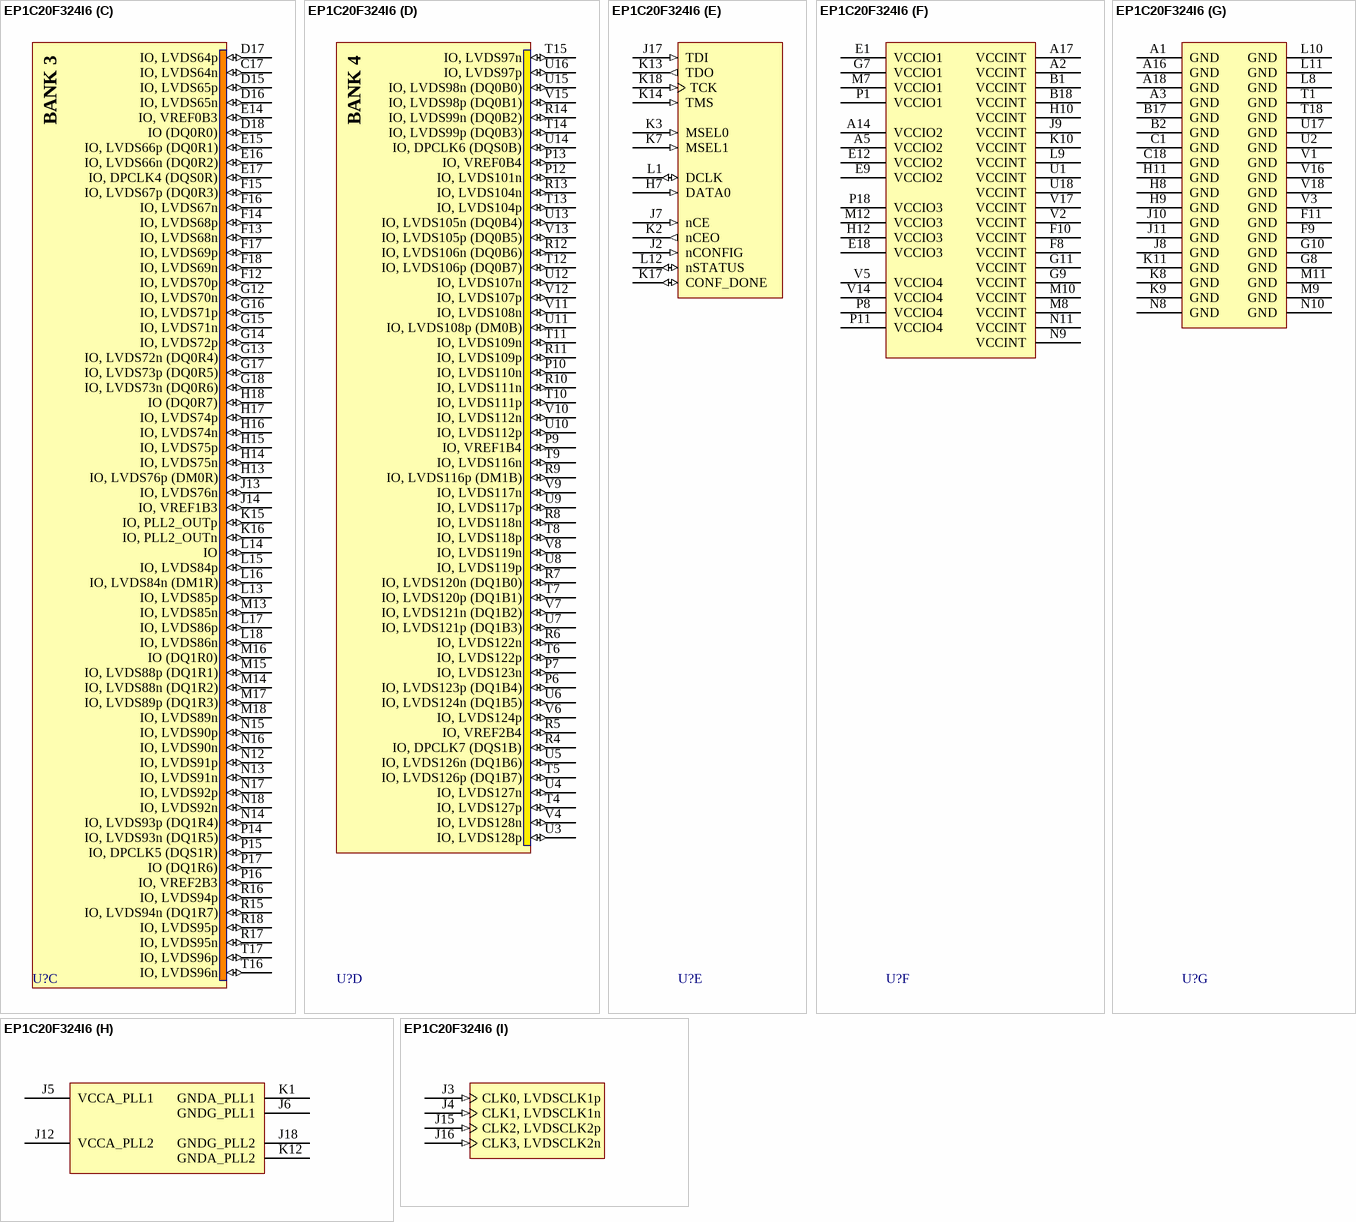
[diagram p128: symbol EP1C20F324I6]

## EP1C20F324I6
designator U?
Cyclone Family, 1.5V FPGA, 233 I/O Pins, 2 x PLLs, Industrial Grade, Speed Grade 6; DatasheetVersion: ver2.4, May-2008; PackageVersion: ver16.0, Dec-2009; PackageReference: FBGA324; PackageDescription: 324-Ball FineLine Ball Grid Array (FBGA324) - Wire Bond; Code_JEDEC: MS-034-AAG-1; Code_IPC: BGA100P18X18-324; ComponentLink1Description: Manufacturer URL; ComponentLink1URL: http://www.altera.com/; ComponentLink2Description: Handbook; ComponentLink2URL: http://www.altera.com/literature/hb/cyc/cyc_c5v1.pdf; ComponentLink3Description: Package Specification; ComponentLink3URL: http://www.altera.com/literature/ds/dspkg.pdf
footprint FBGA324 (BGA, 324-Leads, Body 19x19mm, Pitch 1mm)
part A pins: C2 IO, LVDS31n (CRC_ERROR) (io), C3 IO, LVDS31p (INIT_DONE) (io), D1 IO (io), D2 IO, LVDS30n (io), D3 IO, LVDS30p (CLKUSR) (io), D4 IO, VREF0B1 (io), E2 IO, LVDS29n (DQ0L1) (io), E3 IO, LVDS29p (DQ0L0) (io), E4 IO, LVDS28p (DQ0L2) (io), E5 IO, LVDS28n (DQ0L3) (io), F1 IO, DPCLK1 (DQS0L) (io), F2 IO, LVDS27p (io), F3 IO, LVDS27n (io), F4 IO, LVDS26p (io), F5 IO, LVDS26n (io), F6 IO, LVDS24p (io), F7 IO, LVDS24n (io), G1 IO, LVDS25p (io), G2 IO, LVDS25n (io), G3 IO, LVDS23p (io), G4 IO, LVDS23n (DQ0L4) (io), G5 IO, LVDS22p (DQ0L5) (io), G6 IO, LVDS22n (DQ0L6) (io), H1 IO (DQ0L7) (io), H2 IO, LVDS21p (io), H3 IO, LVDS21n (io), H4 IO, LVDS20p (io), H5 IO, LVDS20n (DM0L) (io), H6 IO, VREF1B1 (io), J1 IO (nCSO) (io), K4 IO, PLL1_OUTp (io), K5 IO, PLL1_OUTn (io), K6 IO (ASDO) (io), L2 IO, LVDS11p (io), L3 IO, LVDS11n (io), L4 IO, LVDS10n (io), L5 IO, LVDS10p (io), L6 IO, LVDS12n (io), L7 IO, LVDS12p (DM1L) (io), M1 IO (DQ1L0) (io), M2 IO, LVDS8n (DQ1L2) (io), M3 IO, LVDS8p (DQ1L1) (io), M4 IO, LVDS7n (io), M5 IO, LVDS7p (DQ1L3) (io), M6 IO, LVDS5p (io), N1 IO, LVDS6p (io), N2 IO, LVDS6n (io), N3 IO, LVDS3p (DQ1L4) (io), N4 IO, LVDS3n (DQ1L5) (io), N5 IO, LVDS4p (io), N6 IO, LVDS4n (io), N7 IO, LVDS5n (io), P2 IO, LVDS2p (DQ1L6) (io), P3 IO, LVDS2n (DQ1L7) (io), P4 IO (io), P5 IO, DPCLK0 (DQS1L) (io), R1 IO, VREF2B1 (io), R2 IO, LVDS1p (io), R3 IO, LVDS1n (io), T2 IO, LVDS0p (io), T3 IO, LVDS0n (io)
part B pins: A4 IO, LVDS33n (DQ1T6) (io), A6 IO, VREF2B2 (io), A7 IO, LVDS39n (DQ1T2) (io), A8 IO, LVDS41n (io), A9 IO, LVDS43n (io), A10 IO, LVDS48p (io), A11 IO, LVDS51p (DM0T) (io), A12 IO, LVDS53p (io), A13 IO, LVDS56p (io), A15 IO, LVDS62p (DQ0T1) (io), B3 IO, LVDS32n (DEV_OE) (io), B4 IO, LVDS33p (DQ1T7) (io), B5 IO, DPCLK2 (DQS1T) (io), B6 IO, LVDS36n (io), B7 IO, LVDS39p (DQ1T3) (io), B8 IO, LVDS41p (io), B9 IO, LVDS43p (io), B10 IO, LVDS48n (io), B11 IO, LVDS51n (io), B12 IO, LVDS53n (io), B13 IO, LVDS56n (io), B14 IO, DPCLK3 (DQS0T) (io), B15 IO, LVDS62n (DQ0T0) (io), B16 IO, LVDS63p (io), C4 IO, LVDS32p (DEV_CLRn) (io), C5 IO, LVDS34n (DQ1T4) (io), C6 IO, LVDS36p (io), C7 IO, LVDS38p (io), C8 IO, LVDS42p (io), C9 IO, LVDS44p (io), C10 IO, LVDS49n (io), C11 IO, LVDS52n (io), C12 IO, LVDS54p (DQ0T7) (io), C13 IO, LVDS55p (DQ0T5) (io), C14 IO, VREF0B2 (io), C15 IO, LVDS61n (DQ0T2) (io), C16 IO, LVDS63n (io), D5 IO, LVDS34p (DQ1T5) (io), D6 IO, LVDS37p (io), D7 IO, LVDS38n (io), D8 IO, LVDS42n (io), D9 IO, LVDS44n (DM1T) (io), D10 IO, LVDS49p (io), D11 IO, LVDS52p (io), D12 IO, LVDS54n (DQ0T6) (io), D13 IO, LVDS55n (DQ0T4) (io), D14 IO, LVDS61p (DQ0T3) (io), E6 IO, LVDS37n (io), E7 IO, LVDS40p (DQ1T1) (io), E8 IO, LVDS40n (DQ1T0) (io), E10 IO, VREF1B2 (io), E11 IO, LVDS50n (io), E13 IO, LVDS59n (io)
part C pins: C17 IO, LVDS64n (io), D15 IO, LVDS65p (io), D16 IO, LVDS65n (io), D17 IO, LVDS64p (io), D18 IO (DQ0R0) (io), E14 IO, VREF0B3 (io), E15 IO, LVDS66p (DQ0R1) (io), E16 IO, LVDS66n (DQ0R2) (io), E17 IO, DPCLK4 (DQS0R) (io), F12 IO, LVDS70p (io), F13 IO, LVDS68n (io), F14 IO, LVDS68p (io), F15 IO, LVDS67p (DQ0R3) (io), F16 IO, LVDS67n (io), F17 IO, LVDS69p (io), F18 IO, LVDS69n (io), G12 IO, LVDS70n (io), G13 IO, LVDS72n (DQ0R4) (io), G14 IO, LVDS72p (io), G15 IO, LVDS71n (io), G16 IO, LVDS71p (io), G17 IO, LVDS73p (DQ0R5) (io), G18 IO, LVDS73n (DQ0R6) (io), H13 IO, LVDS76p (DM0R) (io), H14 IO, LVDS75n (io), H15 IO, LVDS75p (io), H16 IO, LVDS74n (io), H17 IO, LVDS74p (io), H18 IO (DQ0R7) (io), J13 IO, LVDS76n (io), J14 IO, VREF1B3 (io), K15 IO, PLL2_OUTp (io), K16 IO, PLL2_OUTn (io), L13 IO, LVDS85p (io), L14 IO (io), L15 IO, LVDS84p (io), L16 IO, LVDS84n (DM1R) (io), L17 IO, LVDS86p (io), L18 IO, LVDS86n (io), M13 IO, LVDS85n (io), M14 IO, LVDS88n (DQ1R2) (io), M15 IO, LVDS88p (DQ1R1) (io), M16 IO (DQ1R0) (io), M17 IO, LVDS89p (DQ1R3) (io), M18 IO, LVDS89n (io), N12 IO, LVDS91p (io), N13 IO, LVDS91n (io), N14 IO, LVDS93p (DQ1R4) (io), N15 IO, LVDS90p (io), N16 IO, LVDS90n (io), N17 IO, LVDS92p (io), N18 IO, LVDS92n (io), P14 IO, LVDS93n (DQ1R5) (io), P15 IO, DPCLK5 (DQS1R) (io), P16 IO, VREF2B3 (io), P17 IO (DQ1R6) (io), R15 IO, LVDS94n (DQ1R7) (io), R16 IO, LVDS94p (io), R17 IO, LVDS95n (io), R18 IO, LVDS95p (io), T16 IO, LVDS96n (io), T17 IO, LVDS96p (io)
part D pins: P6 IO, LVDS123p (DQ1B4) (io), P7 IO, LVDS123n (io), P9 IO, VREF1B4 (io), P10 IO, LVDS110n (io), P12 IO, LVDS101n (io), P13 IO, VREF0B4 (io), R4 IO, DPCLK7 (DQS1B) (io), R5 IO, VREF2B4 (io), R6 IO, LVDS122n (io), R7 IO, LVDS120n (DQ1B0) (io), R8 IO, LVDS118n (io), R9 IO, LVDS116p (DM1B) (io), R10 IO, LVDS111n (io), R11 IO, LVDS109p (io), R12 IO, LVDS106n (DQ0B6) (io), R13 IO, LVDS104n (io), R14 IO, LVDS99n (DQ0B2) (io), T4 IO, LVDS127p (io), T5 IO, LVDS126p (DQ1B7) (io), T6 IO, LVDS122p (io), T7 IO, LVDS120p (DQ1B1) (io), T8 IO, LVDS118p (io), T9 IO, LVDS116n (io), T10 IO, LVDS111p (io), T11 IO, LVDS109n (io), T12 IO, LVDS106p (DQ0B7) (io), T13 IO, LVDS104p (io), T14 IO, LVDS99p (DQ0B3) (io), T15 IO, LVDS97n (io), U3 IO, LVDS128p (io), U4 IO, LVDS127n (io), U5 IO, LVDS126n (DQ1B6) (io), U6 IO, LVDS124n (DQ1B5) (io), U7 IO, LVDS121p (DQ1B3) (io), U8 IO, LVDS119p (io), U9 IO, LVDS117p (io), U10 IO, LVDS112p (io), U11 IO, LVDS108p (DM0B) (io), U12 IO, LVDS107n (io), U13 IO, LVDS105n (DQ0B4) (io), U14 IO, DPCLK6 (DQS0B) (io), U15 IO, LVDS98n (DQ0B0) (io), U16 IO, LVDS97p (io), V4 IO, LVDS128n (io), V6 IO, LVDS124p (io), V7 IO, LVDS121n (DQ1B2) (io), V8 IO, LVDS119n (io), V9 IO, LVDS117n (io), V10 IO, LVDS112n (io), V11 IO, LVDS108n (io), V12 IO, LVDS107p (io), V13 IO, LVDS105p (DQ0B5) (io), V15 IO, LVDS98p (DQ0B1) (io)
part E pins: H7 DATA0 (in), J2 nCONFIG (in), J7 nCE (in), J17 TDI (in), K2 nCEO (out), K3 MSEL0 (in), K7 MSEL1 (in), K13 TDO (out), K14 TMS (in), K17 CONF_DONE (io), K18 TCK (in), L1 DCLK (io), L12 nSTATUS (io)
part F pins: A2 VCCINT (power), A5 VCCIO2 (power), A14 VCCIO2 (power), A17 VCCINT (power), B1 VCCINT (power), B18 VCCINT (power), E1 VCCIO1 (power), E9 VCCIO2 (power), E12 VCCIO2 (power), E18 VCCIO3 (power), F8 VCCINT (power), F10 VCCINT (power), G7 VCCIO1 (power), G9 VCCINT (power), G11 VCCINT (power), H10 VCCINT (power), H12 VCCIO3 (power), J9 VCCINT (power), K10 VCCINT (power), L9 VCCINT (power), M7 VCCIO1 (power), M8 VCCINT (power), M10 VCCINT (power), M12 VCCIO3 (power), N9 VCCINT (power), N11 VCCINT (power), P1 VCCIO1 (power), P8 VCCIO4 (power), P11 VCCIO4 (power), P18 VCCIO3 (power), U1 VCCINT (power), U18 VCCINT (power), V2 VCCINT (power), V5 VCCIO4 (power), V14 VCCIO4 (power), V17 VCCINT (power)
part G pins: A1 GND (power), A3 GND (power), A16 GND (power), A18 GND (power), B2 GND (power), B17 GND (power), C1 GND (power), C18 GND (power), F9 GND (power), F11 GND (power), G8 GND (power), G10 GND (power), H8 GND (power), H9 GND (power), H11 GND (power), J8 GND (power), J10 GND (power), J11 GND (power), K8 GND (power), K9 GND (power), K11 GND (power), L8 GND (power), L10 GND (power), L11 GND (power), M9 GND (power), M11 GND (power), N8 GND (power), N10 GND (power), T1 GND (power), T18 GND (power), U2 GND (power), U17 GND (power), V1 GND (power), V3 GND (power), V16 GND (power), V18 GND (power)
part H pins: J5 VCCA_PLL1 (power), J6 GNDG_PLL1 (power), J12 VCCA_PLL2 (power), J18 GNDG_PLL2 (power), K1 GNDA_PLL1 (power), K12 GNDA_PLL2 (power)
part I pins: J3 CLK0, LVDSCLK1p (in), J4 CLK1, LVDSCLK1n (in), J15 CLK2, LVDSCLK2p (in), J16 CLK3, LVDSCLK2n (in)
part A text: BANK 1
part B text: BANK 2
part C text: BANK 3
part D text: BANK 4

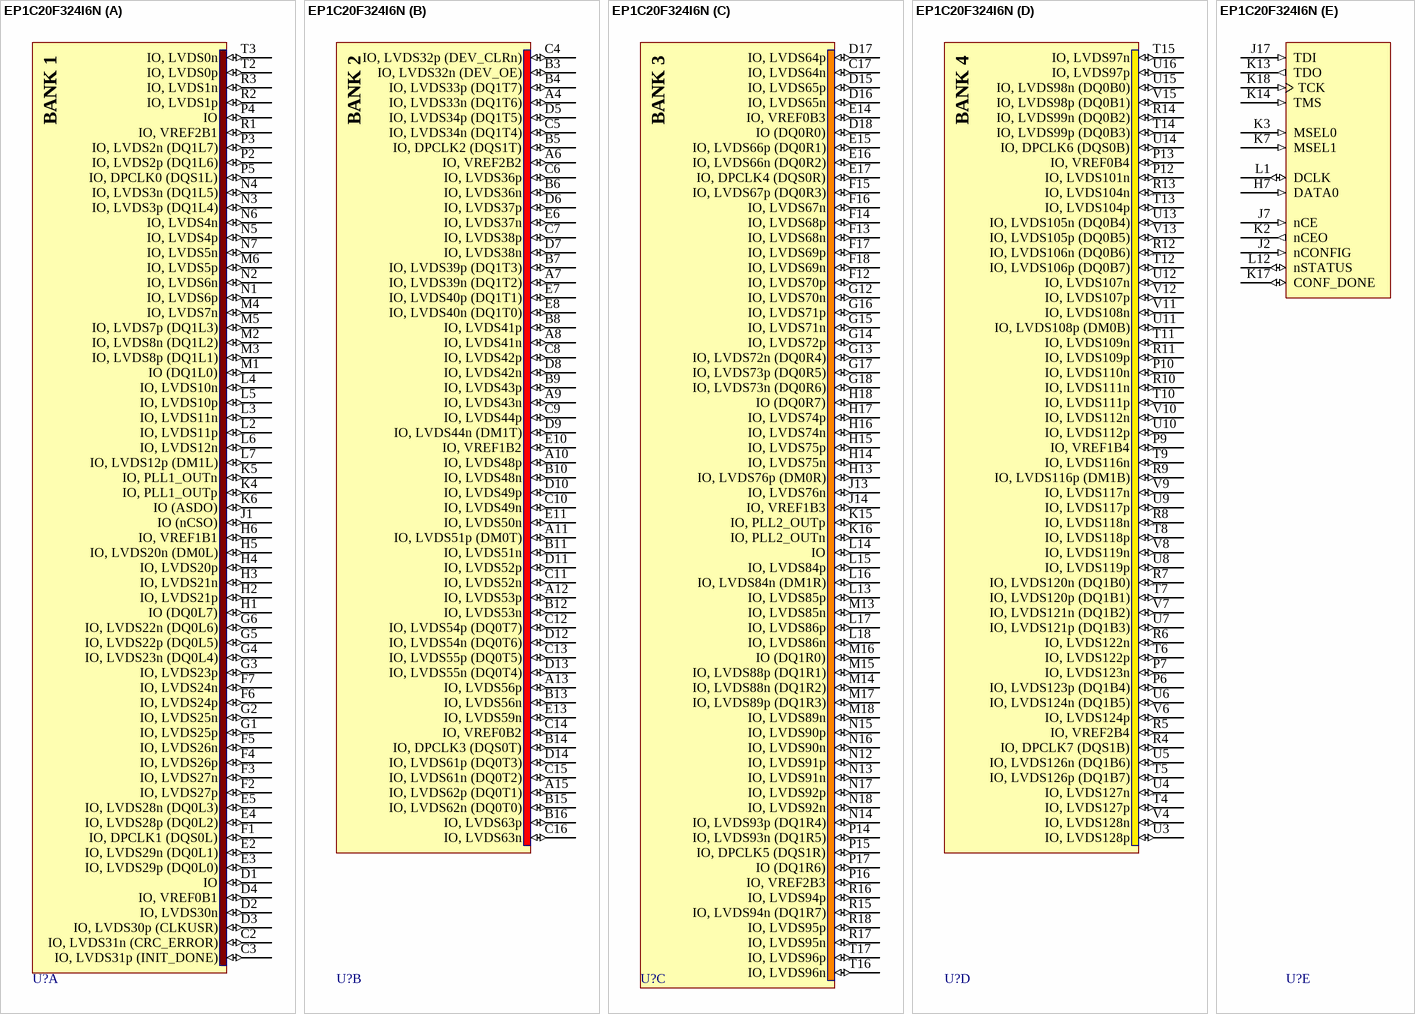
[diagram p129: symbol EP1C20F324I6N]

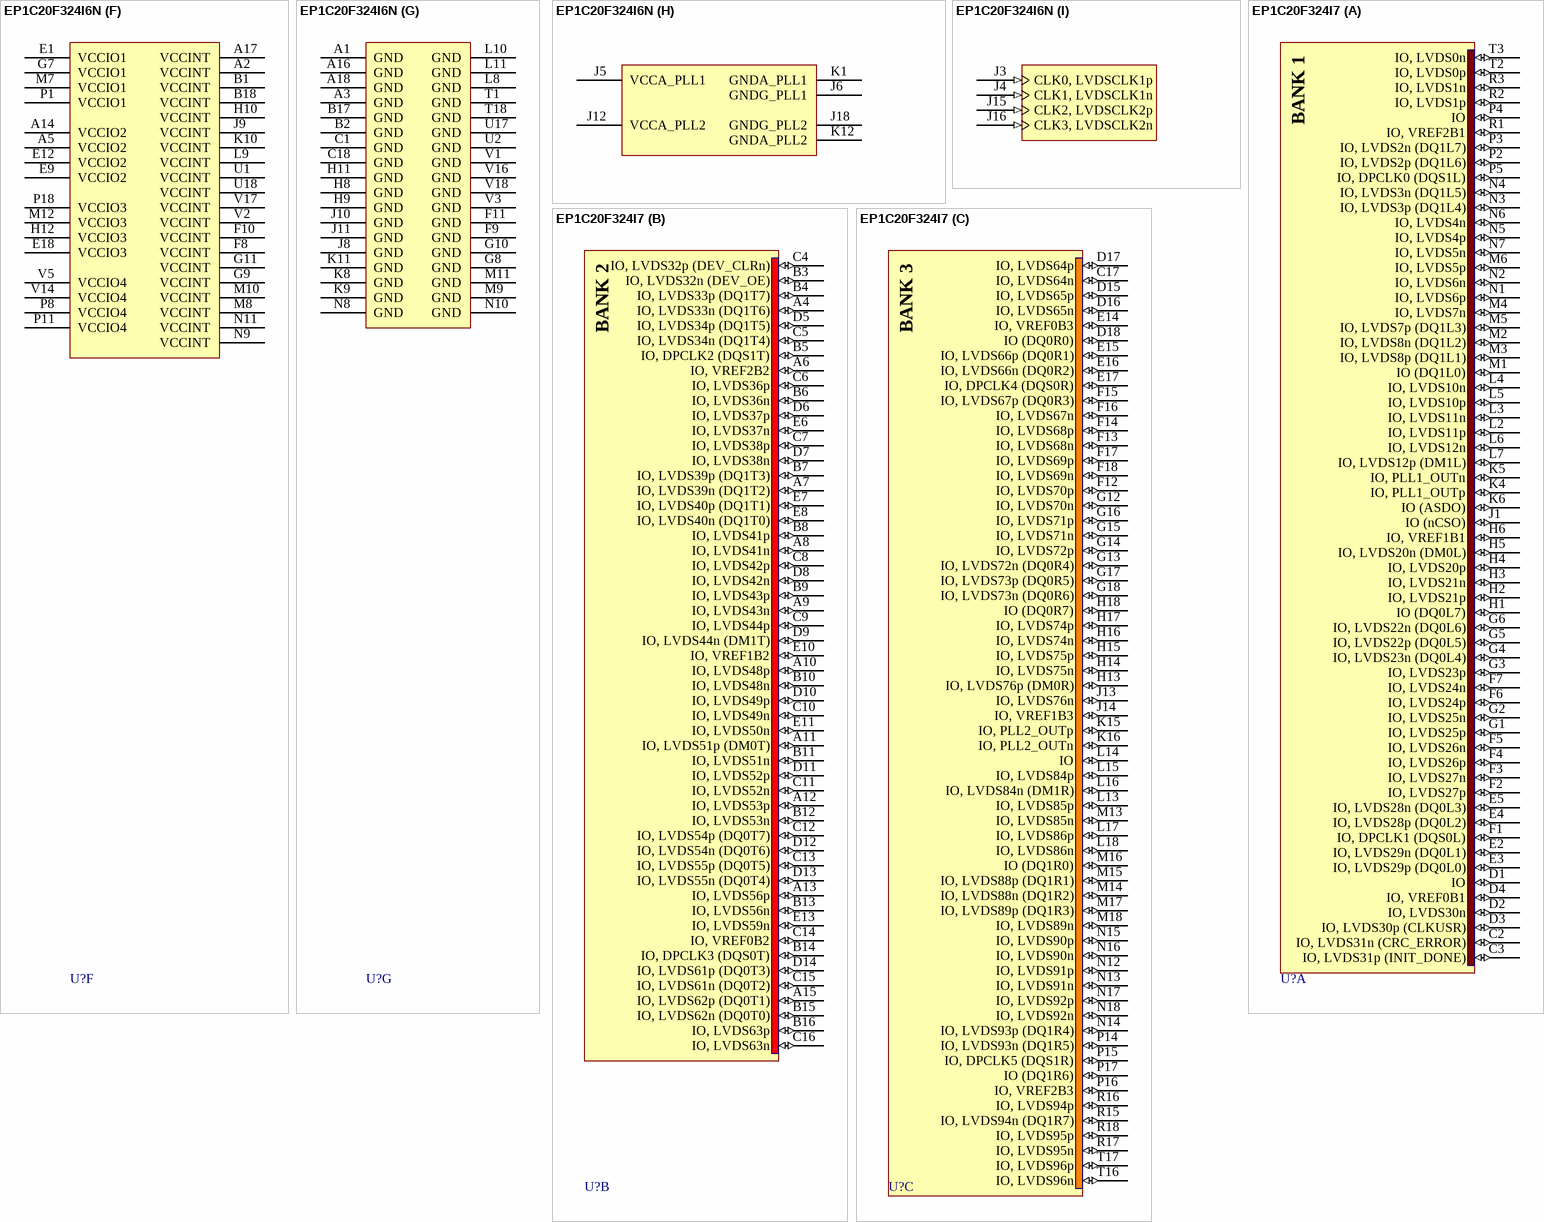
[diagram p130: symbols EP1C20F324I6N to EP1C20F324I7]

## EP1C20F324I6N
designator U?
Cyclone Family, 1.5V FPGA, 233 I/O Pins, 2 x PLLs, Industrial Grade, Speed Grade 6, Pb-Free; DatasheetVersion: ver2.4, May-2008; PackageVersion: ver16.0, Dec-2009; PackageReference: FBGA324; PackageDescription: 324-Ball FineLine Ball Grid Array (FBGA324) - Wire Bond; Code_JEDEC: MS-034-AAG-1; Code_IPC: BGA100P18X18-324; ComponentLink1Description: Manufacturer URL; ComponentLink1URL: http://www.altera.com/; ComponentLink2Description: Handbook; ComponentLink2URL: http://www.altera.com/literature/hb/cyc/cyc_c5v1.pdf; ComponentLink3Description: Package Specification; ComponentLink3URL: http://www.altera.com/literature/ds/dspkg.pdf
footprint FBGA324 (BGA, 324-Leads, Body 19x19mm, Pitch 1mm)
part A pins: C2 IO, LVDS31n (CRC_ERROR) (io), C3 IO, LVDS31p (INIT_DONE) (io), D1 IO (io), D2 IO, LVDS30n (io), D3 IO, LVDS30p (CLKUSR) (io), D4 IO, VREF0B1 (io), E2 IO, LVDS29n (DQ0L1) (io), E3 IO, LVDS29p (DQ0L0) (io), E4 IO, LVDS28p (DQ0L2) (io), E5 IO, LVDS28n (DQ0L3) (io), F1 IO, DPCLK1 (DQS0L) (io), F2 IO, LVDS27p (io), F3 IO, LVDS27n (io), F4 IO, LVDS26p (io), F5 IO, LVDS26n (io), F6 IO, LVDS24p (io), F7 IO, LVDS24n (io), G1 IO, LVDS25p (io), G2 IO, LVDS25n (io), G3 IO, LVDS23p (io), G4 IO, LVDS23n (DQ0L4) (io), G5 IO, LVDS22p (DQ0L5) (io), G6 IO, LVDS22n (DQ0L6) (io), H1 IO (DQ0L7) (io), H2 IO, LVDS21p (io), H3 IO, LVDS21n (io), H4 IO, LVDS20p (io), H5 IO, LVDS20n (DM0L) (io), H6 IO, VREF1B1 (io), J1 IO (nCSO) (io), K4 IO, PLL1_OUTp (io), K5 IO, PLL1_OUTn (io), K6 IO (ASDO) (io), L2 IO, LVDS11p (io), L3 IO, LVDS11n (io), L4 IO, LVDS10n (io), L5 IO, LVDS10p (io), L6 IO, LVDS12n (io), L7 IO, LVDS12p (DM1L) (io), M1 IO (DQ1L0) (io), M2 IO, LVDS8n (DQ1L2) (io), M3 IO, LVDS8p (DQ1L1) (io), M4 IO, LVDS7n (io), M5 IO, LVDS7p (DQ1L3) (io), M6 IO, LVDS5p (io), N1 IO, LVDS6p (io), N2 IO, LVDS6n (io), N3 IO, LVDS3p (DQ1L4) (io), N4 IO, LVDS3n (DQ1L5) (io), N5 IO, LVDS4p (io), N6 IO, LVDS4n (io), N7 IO, LVDS5n (io), P2 IO, LVDS2p (DQ1L6) (io), P3 IO, LVDS2n (DQ1L7) (io), P4 IO (io), P5 IO, DPCLK0 (DQS1L) (io), R1 IO, VREF2B1 (io), R2 IO, LVDS1p (io), R3 IO, LVDS1n (io), T2 IO, LVDS0p (io), T3 IO, LVDS0n (io)
part B pins: A4 IO, LVDS33n (DQ1T6) (io), A6 IO, VREF2B2 (io), A7 IO, LVDS39n (DQ1T2) (io), A8 IO, LVDS41n (io), A9 IO, LVDS43n (io), A10 IO, LVDS48p (io), A11 IO, LVDS51p (DM0T) (io), A12 IO, LVDS53p (io), A13 IO, LVDS56p (io), A15 IO, LVDS62p (DQ0T1) (io), B3 IO, LVDS32n (DEV_OE) (io), B4 IO, LVDS33p (DQ1T7) (io), B5 IO, DPCLK2 (DQS1T) (io), B6 IO, LVDS36n (io), B7 IO, LVDS39p (DQ1T3) (io), B8 IO, LVDS41p (io), B9 IO, LVDS43p (io), B10 IO, LVDS48n (io), B11 IO, LVDS51n (io), B12 IO, LVDS53n (io), B13 IO, LVDS56n (io), B14 IO, DPCLK3 (DQS0T) (io), B15 IO, LVDS62n (DQ0T0) (io), B16 IO, LVDS63p (io), C4 IO, LVDS32p (DEV_CLRn) (io), C5 IO, LVDS34n (DQ1T4) (io), C6 IO, LVDS36p (io), C7 IO, LVDS38p (io), C8 IO, LVDS42p (io), C9 IO, LVDS44p (io), C10 IO, LVDS49n (io), C11 IO, LVDS52n (io), C12 IO, LVDS54p (DQ0T7) (io), C13 IO, LVDS55p (DQ0T5) (io), C14 IO, VREF0B2 (io), C15 IO, LVDS61n (DQ0T2) (io), C16 IO, LVDS63n (io), D5 IO, LVDS34p (DQ1T5) (io), D6 IO, LVDS37p (io), D7 IO, LVDS38n (io), D8 IO, LVDS42n (io), D9 IO, LVDS44n (DM1T) (io), D10 IO, LVDS49p (io), D11 IO, LVDS52p (io), D12 IO, LVDS54n (DQ0T6) (io), D13 IO, LVDS55n (DQ0T4) (io), D14 IO, LVDS61p (DQ0T3) (io), E6 IO, LVDS37n (io), E7 IO, LVDS40p (DQ1T1) (io), E8 IO, LVDS40n (DQ1T0) (io), E10 IO, VREF1B2 (io), E11 IO, LVDS50n (io), E13 IO, LVDS59n (io)
part C pins: C17 IO, LVDS64n (io), D15 IO, LVDS65p (io), D16 IO, LVDS65n (io), D17 IO, LVDS64p (io), D18 IO (DQ0R0) (io), E14 IO, VREF0B3 (io), E15 IO, LVDS66p (DQ0R1) (io), E16 IO, LVDS66n (DQ0R2) (io), E17 IO, DPCLK4 (DQS0R) (io), F12 IO, LVDS70p (io), F13 IO, LVDS68n (io), F14 IO, LVDS68p (io), F15 IO, LVDS67p (DQ0R3) (io), F16 IO, LVDS67n (io), F17 IO, LVDS69p (io), F18 IO, LVDS69n (io), G12 IO, LVDS70n (io), G13 IO, LVDS72n (DQ0R4) (io), G14 IO, LVDS72p (io), G15 IO, LVDS71n (io), G16 IO, LVDS71p (io), G17 IO, LVDS73p (DQ0R5) (io), G18 IO, LVDS73n (DQ0R6) (io), H13 IO, LVDS76p (DM0R) (io), H14 IO, LVDS75n (io), H15 IO, LVDS75p (io), H16 IO, LVDS74n (io), H17 IO, LVDS74p (io), H18 IO (DQ0R7) (io), J13 IO, LVDS76n (io), J14 IO, VREF1B3 (io), K15 IO, PLL2_OUTp (io), K16 IO, PLL2_OUTn (io), L13 IO, LVDS85p (io), L14 IO (io), L15 IO, LVDS84p (io), L16 IO, LVDS84n (DM1R) (io), L17 IO, LVDS86p (io), L18 IO, LVDS86n (io), M13 IO, LVDS85n (io), M14 IO, LVDS88n (DQ1R2) (io), M15 IO, LVDS88p (DQ1R1) (io), M16 IO (DQ1R0) (io), M17 IO, LVDS89p (DQ1R3) (io), M18 IO, LVDS89n (io), N12 IO, LVDS91p (io), N13 IO, LVDS91n (io), N14 IO, LVDS93p (DQ1R4) (io), N15 IO, LVDS90p (io), N16 IO, LVDS90n (io), N17 IO, LVDS92p (io), N18 IO, LVDS92n (io), P14 IO, LVDS93n (DQ1R5) (io), P15 IO, DPCLK5 (DQS1R) (io), P16 IO, VREF2B3 (io), P17 IO (DQ1R6) (io), R15 IO, LVDS94n (DQ1R7) (io), R16 IO, LVDS94p (io), R17 IO, LVDS95n (io), R18 IO, LVDS95p (io), T16 IO, LVDS96n (io), T17 IO, LVDS96p (io)
part D pins: P6 IO, LVDS123p (DQ1B4) (io), P7 IO, LVDS123n (io), P9 IO, VREF1B4 (io), P10 IO, LVDS110n (io), P12 IO, LVDS101n (io), P13 IO, VREF0B4 (io), R4 IO, DPCLK7 (DQS1B) (io), R5 IO, VREF2B4 (io), R6 IO, LVDS122n (io), R7 IO, LVDS120n (DQ1B0) (io), R8 IO, LVDS118n (io), R9 IO, LVDS116p (DM1B) (io), R10 IO, LVDS111n (io), R11 IO, LVDS109p (io), R12 IO, LVDS106n (DQ0B6) (io), R13 IO, LVDS104n (io), R14 IO, LVDS99n (DQ0B2) (io), T4 IO, LVDS127p (io), T5 IO, LVDS126p (DQ1B7) (io), T6 IO, LVDS122p (io), T7 IO, LVDS120p (DQ1B1) (io), T8 IO, LVDS118p (io), T9 IO, LVDS116n (io), T10 IO, LVDS111p (io), T11 IO, LVDS109n (io), T12 IO, LVDS106p (DQ0B7) (io), T13 IO, LVDS104p (io), T14 IO, LVDS99p (DQ0B3) (io), T15 IO, LVDS97n (io), U3 IO, LVDS128p (io), U4 IO, LVDS127n (io), U5 IO, LVDS126n (DQ1B6) (io), U6 IO, LVDS124n (DQ1B5) (io), U7 IO, LVDS121p (DQ1B3) (io), U8 IO, LVDS119p (io), U9 IO, LVDS117p (io), U10 IO, LVDS112p (io), U11 IO, LVDS108p (DM0B) (io), U12 IO, LVDS107n (io), U13 IO, LVDS105n (DQ0B4) (io), U14 IO, DPCLK6 (DQS0B) (io), U15 IO, LVDS98n (DQ0B0) (io), U16 IO, LVDS97p (io), V4 IO, LVDS128n (io), V6 IO, LVDS124p (io), V7 IO, LVDS121n (DQ1B2) (io), V8 IO, LVDS119n (io), V9 IO, LVDS117n (io), V10 IO, LVDS112n (io), V11 IO, LVDS108n (io), V12 IO, LVDS107p (io), V13 IO, LVDS105p (DQ0B5) (io), V15 IO, LVDS98p (DQ0B1) (io)
part E pins: H7 DATA0 (in), J2 nCONFIG (in), J7 nCE (in), J17 TDI (in), K2 nCEO (out), K3 MSEL0 (in), K7 MSEL1 (in), K13 TDO (out), K14 TMS (in), K17 CONF_DONE (io), K18 TCK (in), L1 DCLK (io), L12 nSTATUS (io)
part F pins: A2 VCCINT (power), A5 VCCIO2 (power), A14 VCCIO2 (power), A17 VCCINT (power), B1 VCCINT (power), B18 VCCINT (power), E1 VCCIO1 (power), E9 VCCIO2 (power), E12 VCCIO2 (power), E18 VCCIO3 (power), F8 VCCINT (power), F10 VCCINT (power), G7 VCCIO1 (power), G9 VCCINT (power), G11 VCCINT (power), H10 VCCINT (power), H12 VCCIO3 (power), J9 VCCINT (power), K10 VCCINT (power), L9 VCCINT (power), M7 VCCIO1 (power), M8 VCCINT (power), M10 VCCINT (power), M12 VCCIO3 (power), N9 VCCINT (power), N11 VCCINT (power), P1 VCCIO1 (power), P8 VCCIO4 (power), P11 VCCIO4 (power), P18 VCCIO3 (power), U1 VCCINT (power), U18 VCCINT (power), V2 VCCINT (power), V5 VCCIO4 (power), V14 VCCIO4 (power), V17 VCCINT (power)
part G pins: A1 GND (power), A3 GND (power), A16 GND (power), A18 GND (power), B2 GND (power), B17 GND (power), C1 GND (power), C18 GND (power), F9 GND (power), F11 GND (power), G8 GND (power), G10 GND (power), H8 GND (power), H9 GND (power), H11 GND (power), J8 GND (power), J10 GND (power), J11 GND (power), K8 GND (power), K9 GND (power), K11 GND (power), L8 GND (power), L10 GND (power), L11 GND (power), M9 GND (power), M11 GND (power), N8 GND (power), N10 GND (power), T1 GND (power), T18 GND (power), U2 GND (power), U17 GND (power), V1 GND (power), V3 GND (power), V16 GND (power), V18 GND (power)
part H pins: J5 VCCA_PLL1 (power), J6 GNDG_PLL1 (power), J12 VCCA_PLL2 (power), J18 GNDG_PLL2 (power), K1 GNDA_PLL1 (power), K12 GNDA_PLL2 (power)
part I pins: J3 CLK0, LVDSCLK1p (in), J4 CLK1, LVDSCLK1n (in), J15 CLK2, LVDSCLK2p (in), J16 CLK3, LVDSCLK2n (in)
part A text: BANK 1
part B text: BANK 2
part C text: BANK 3
part D text: BANK 4

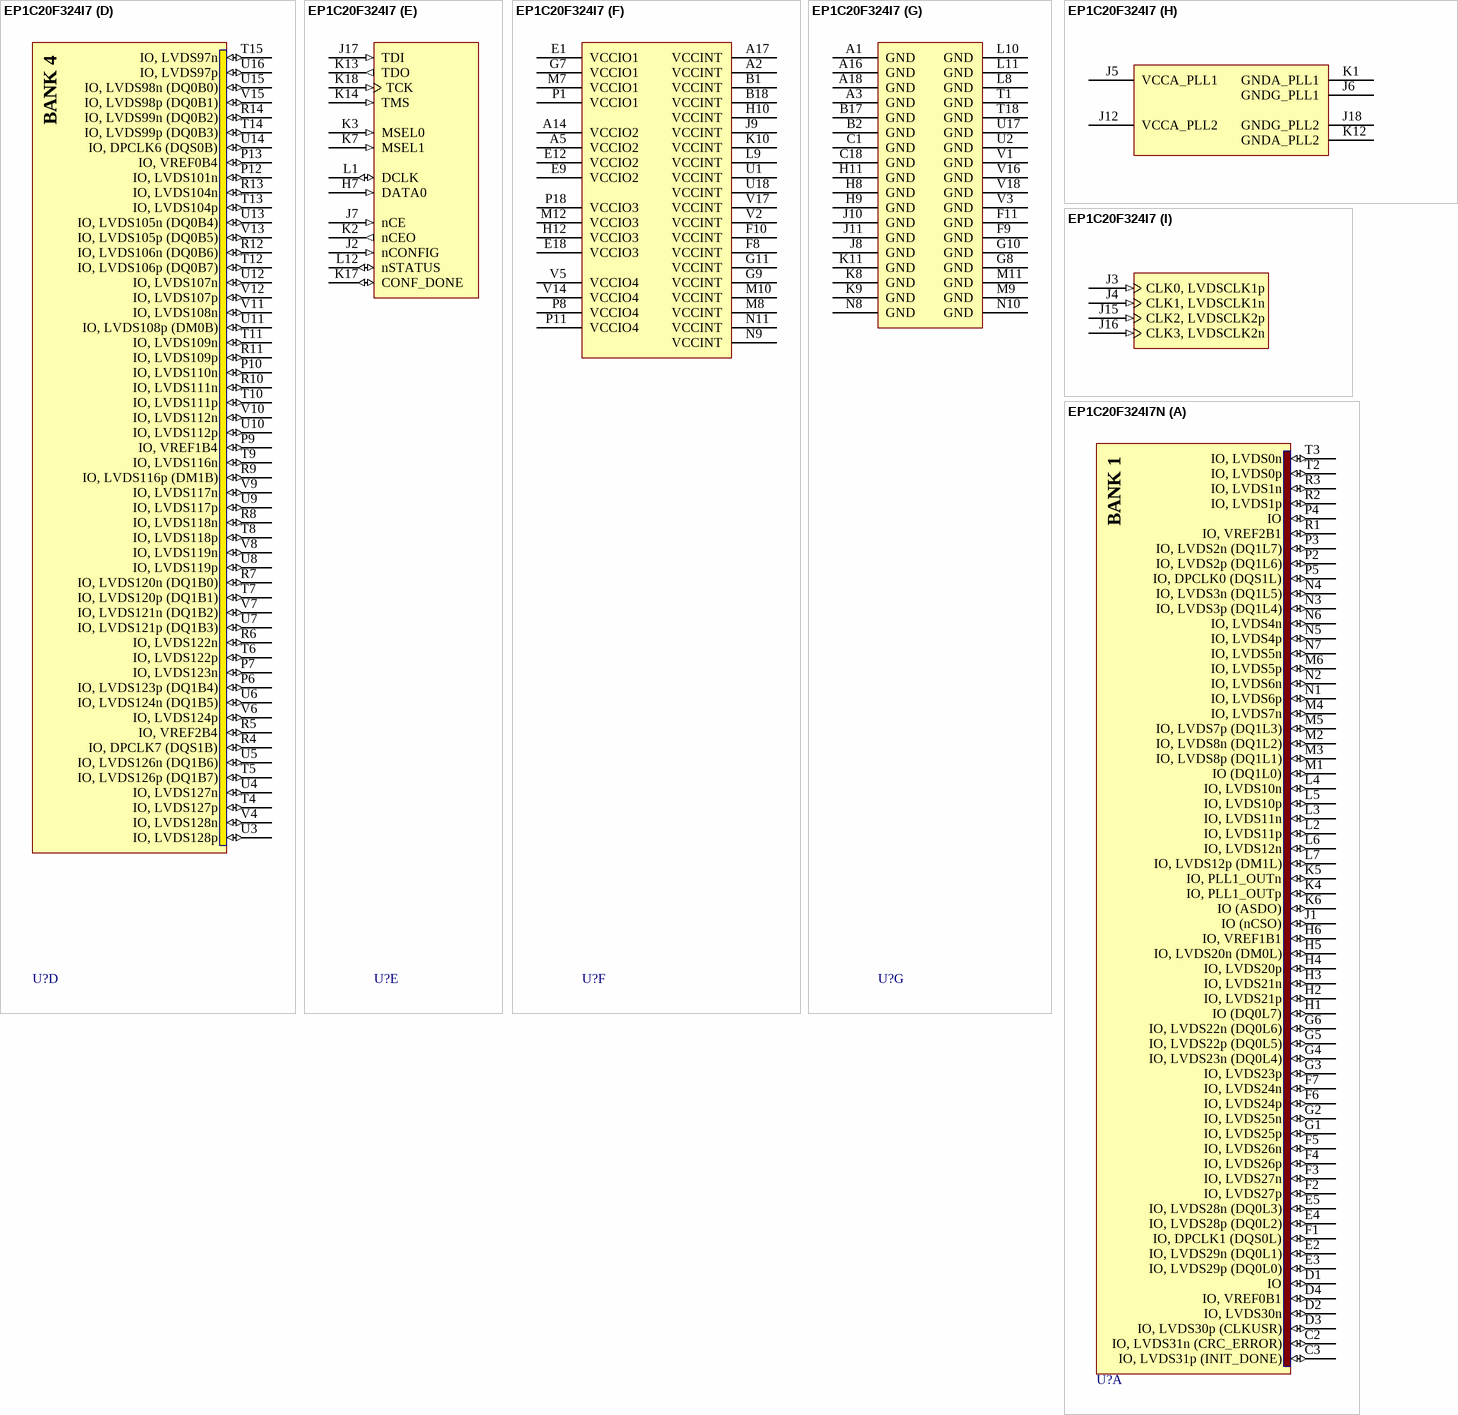
[diagram p131: symbols EP1C20F324I7 to EP1C20F324I7N]

## EP1C20F324I7
designator U?
Cyclone Family, 1.5V FPGA, 233 I/O Pins, 2 x PLLs, Industrial Grade, Speed Grade 7; DatasheetVersion: ver2.4, May-2008; PackageVersion: ver16.0, Dec-2009; PackageReference: FBGA324; PackageDescription: 324-Ball FineLine Ball Grid Array (FBGA324) - Wire Bond; Code_JEDEC: MS-034-AAG-1; Code_IPC: BGA100P18X18-324; ComponentLink1Description: Manufacturer URL; ComponentLink1URL: http://www.altera.com/; ComponentLink2Description: Handbook; ComponentLink2URL: http://www.altera.com/literature/hb/cyc/cyc_c5v1.pdf; ComponentLink3Description: Package Specification; ComponentLink3URL: http://www.altera.com/literature/ds/dspkg.pdf
footprint FBGA324 (BGA, 324-Leads, Body 19x19mm, Pitch 1mm)
part A pins: C2 IO, LVDS31n (CRC_ERROR) (io), C3 IO, LVDS31p (INIT_DONE) (io), D1 IO (io), D2 IO, LVDS30n (io), D3 IO, LVDS30p (CLKUSR) (io), D4 IO, VREF0B1 (io), E2 IO, LVDS29n (DQ0L1) (io), E3 IO, LVDS29p (DQ0L0) (io), E4 IO, LVDS28p (DQ0L2) (io), E5 IO, LVDS28n (DQ0L3) (io), F1 IO, DPCLK1 (DQS0L) (io), F2 IO, LVDS27p (io), F3 IO, LVDS27n (io), F4 IO, LVDS26p (io), F5 IO, LVDS26n (io), F6 IO, LVDS24p (io), F7 IO, LVDS24n (io), G1 IO, LVDS25p (io), G2 IO, LVDS25n (io), G3 IO, LVDS23p (io), G4 IO, LVDS23n (DQ0L4) (io), G5 IO, LVDS22p (DQ0L5) (io), G6 IO, LVDS22n (DQ0L6) (io), H1 IO (DQ0L7) (io), H2 IO, LVDS21p (io), H3 IO, LVDS21n (io), H4 IO, LVDS20p (io), H5 IO, LVDS20n (DM0L) (io), H6 IO, VREF1B1 (io), J1 IO (nCSO) (io), K4 IO, PLL1_OUTp (io), K5 IO, PLL1_OUTn (io), K6 IO (ASDO) (io), L2 IO, LVDS11p (io), L3 IO, LVDS11n (io), L4 IO, LVDS10n (io), L5 IO, LVDS10p (io), L6 IO, LVDS12n (io), L7 IO, LVDS12p (DM1L) (io), M1 IO (DQ1L0) (io), M2 IO, LVDS8n (DQ1L2) (io), M3 IO, LVDS8p (DQ1L1) (io), M4 IO, LVDS7n (io), M5 IO, LVDS7p (DQ1L3) (io), M6 IO, LVDS5p (io), N1 IO, LVDS6p (io), N2 IO, LVDS6n (io), N3 IO, LVDS3p (DQ1L4) (io), N4 IO, LVDS3n (DQ1L5) (io), N5 IO, LVDS4p (io), N6 IO, LVDS4n (io), N7 IO, LVDS5n (io), P2 IO, LVDS2p (DQ1L6) (io), P3 IO, LVDS2n (DQ1L7) (io), P4 IO (io), P5 IO, DPCLK0 (DQS1L) (io), R1 IO, VREF2B1 (io), R2 IO, LVDS1p (io), R3 IO, LVDS1n (io), T2 IO, LVDS0p (io), T3 IO, LVDS0n (io)
part B pins: A4 IO, LVDS33n (DQ1T6) (io), A6 IO, VREF2B2 (io), A7 IO, LVDS39n (DQ1T2) (io), A8 IO, LVDS41n (io), A9 IO, LVDS43n (io), A10 IO, LVDS48p (io), A11 IO, LVDS51p (DM0T) (io), A12 IO, LVDS53p (io), A13 IO, LVDS56p (io), A15 IO, LVDS62p (DQ0T1) (io), B3 IO, LVDS32n (DEV_OE) (io), B4 IO, LVDS33p (DQ1T7) (io), B5 IO, DPCLK2 (DQS1T) (io), B6 IO, LVDS36n (io), B7 IO, LVDS39p (DQ1T3) (io), B8 IO, LVDS41p (io), B9 IO, LVDS43p (io), B10 IO, LVDS48n (io), B11 IO, LVDS51n (io), B12 IO, LVDS53n (io), B13 IO, LVDS56n (io), B14 IO, DPCLK3 (DQS0T) (io), B15 IO, LVDS62n (DQ0T0) (io), B16 IO, LVDS63p (io), C4 IO, LVDS32p (DEV_CLRn) (io), C5 IO, LVDS34n (DQ1T4) (io), C6 IO, LVDS36p (io), C7 IO, LVDS38p (io), C8 IO, LVDS42p (io), C9 IO, LVDS44p (io), C10 IO, LVDS49n (io), C11 IO, LVDS52n (io), C12 IO, LVDS54p (DQ0T7) (io), C13 IO, LVDS55p (DQ0T5) (io), C14 IO, VREF0B2 (io), C15 IO, LVDS61n (DQ0T2) (io), C16 IO, LVDS63n (io), D5 IO, LVDS34p (DQ1T5) (io), D6 IO, LVDS37p (io), D7 IO, LVDS38n (io), D8 IO, LVDS42n (io), D9 IO, LVDS44n (DM1T) (io), D10 IO, LVDS49p (io), D11 IO, LVDS52p (io), D12 IO, LVDS54n (DQ0T6) (io), D13 IO, LVDS55n (DQ0T4) (io), D14 IO, LVDS61p (DQ0T3) (io), E6 IO, LVDS37n (io), E7 IO, LVDS40p (DQ1T1) (io), E8 IO, LVDS40n (DQ1T0) (io), E10 IO, VREF1B2 (io), E11 IO, LVDS50n (io), E13 IO, LVDS59n (io)
part C pins: C17 IO, LVDS64n (io), D15 IO, LVDS65p (io), D16 IO, LVDS65n (io), D17 IO, LVDS64p (io), D18 IO (DQ0R0) (io), E14 IO, VREF0B3 (io), E15 IO, LVDS66p (DQ0R1) (io), E16 IO, LVDS66n (DQ0R2) (io), E17 IO, DPCLK4 (DQS0R) (io), F12 IO, LVDS70p (io), F13 IO, LVDS68n (io), F14 IO, LVDS68p (io), F15 IO, LVDS67p (DQ0R3) (io), F16 IO, LVDS67n (io), F17 IO, LVDS69p (io), F18 IO, LVDS69n (io), G12 IO, LVDS70n (io), G13 IO, LVDS72n (DQ0R4) (io), G14 IO, LVDS72p (io), G15 IO, LVDS71n (io), G16 IO, LVDS71p (io), G17 IO, LVDS73p (DQ0R5) (io), G18 IO, LVDS73n (DQ0R6) (io), H13 IO, LVDS76p (DM0R) (io), H14 IO, LVDS75n (io), H15 IO, LVDS75p (io), H16 IO, LVDS74n (io), H17 IO, LVDS74p (io), H18 IO (DQ0R7) (io), J13 IO, LVDS76n (io), J14 IO, VREF1B3 (io), K15 IO, PLL2_OUTp (io), K16 IO, PLL2_OUTn (io), L13 IO, LVDS85p (io), L14 IO (io), L15 IO, LVDS84p (io), L16 IO, LVDS84n (DM1R) (io), L17 IO, LVDS86p (io), L18 IO, LVDS86n (io), M13 IO, LVDS85n (io), M14 IO, LVDS88n (DQ1R2) (io), M15 IO, LVDS88p (DQ1R1) (io), M16 IO (DQ1R0) (io), M17 IO, LVDS89p (DQ1R3) (io), M18 IO, LVDS89n (io), N12 IO, LVDS91p (io), N13 IO, LVDS91n (io), N14 IO, LVDS93p (DQ1R4) (io), N15 IO, LVDS90p (io), N16 IO, LVDS90n (io), N17 IO, LVDS92p (io), N18 IO, LVDS92n (io), P14 IO, LVDS93n (DQ1R5) (io), P15 IO, DPCLK5 (DQS1R) (io), P16 IO, VREF2B3 (io), P17 IO (DQ1R6) (io), R15 IO, LVDS94n (DQ1R7) (io), R16 IO, LVDS94p (io), R17 IO, LVDS95n (io), R18 IO, LVDS95p (io), T16 IO, LVDS96n (io), T17 IO, LVDS96p (io)
part D pins: P6 IO, LVDS123p (DQ1B4) (io), P7 IO, LVDS123n (io), P9 IO, VREF1B4 (io), P10 IO, LVDS110n (io), P12 IO, LVDS101n (io), P13 IO, VREF0B4 (io), R4 IO, DPCLK7 (DQS1B) (io), R5 IO, VREF2B4 (io), R6 IO, LVDS122n (io), R7 IO, LVDS120n (DQ1B0) (io), R8 IO, LVDS118n (io), R9 IO, LVDS116p (DM1B) (io), R10 IO, LVDS111n (io), R11 IO, LVDS109p (io), R12 IO, LVDS106n (DQ0B6) (io), R13 IO, LVDS104n (io), R14 IO, LVDS99n (DQ0B2) (io), T4 IO, LVDS127p (io), T5 IO, LVDS126p (DQ1B7) (io), T6 IO, LVDS122p (io), T7 IO, LVDS120p (DQ1B1) (io), T8 IO, LVDS118p (io), T9 IO, LVDS116n (io), T10 IO, LVDS111p (io), T11 IO, LVDS109n (io), T12 IO, LVDS106p (DQ0B7) (io), T13 IO, LVDS104p (io), T14 IO, LVDS99p (DQ0B3) (io), T15 IO, LVDS97n (io), U3 IO, LVDS128p (io), U4 IO, LVDS127n (io), U5 IO, LVDS126n (DQ1B6) (io), U6 IO, LVDS124n (DQ1B5) (io), U7 IO, LVDS121p (DQ1B3) (io), U8 IO, LVDS119p (io), U9 IO, LVDS117p (io), U10 IO, LVDS112p (io), U11 IO, LVDS108p (DM0B) (io), U12 IO, LVDS107n (io), U13 IO, LVDS105n (DQ0B4) (io), U14 IO, DPCLK6 (DQS0B) (io), U15 IO, LVDS98n (DQ0B0) (io), U16 IO, LVDS97p (io), V4 IO, LVDS128n (io), V6 IO, LVDS124p (io), V7 IO, LVDS121n (DQ1B2) (io), V8 IO, LVDS119n (io), V9 IO, LVDS117n (io), V10 IO, LVDS112n (io), V11 IO, LVDS108n (io), V12 IO, LVDS107p (io), V13 IO, LVDS105p (DQ0B5) (io), V15 IO, LVDS98p (DQ0B1) (io)
part E pins: H7 DATA0 (in), J2 nCONFIG (in), J7 nCE (in), J17 TDI (in), K2 nCEO (out), K3 MSEL0 (in), K7 MSEL1 (in), K13 TDO (out), K14 TMS (in), K17 CONF_DONE (io), K18 TCK (in), L1 DCLK (io), L12 nSTATUS (io)
part F pins: A2 VCCINT (power), A5 VCCIO2 (power), A14 VCCIO2 (power), A17 VCCINT (power), B1 VCCINT (power), B18 VCCINT (power), E1 VCCIO1 (power), E9 VCCIO2 (power), E12 VCCIO2 (power), E18 VCCIO3 (power), F8 VCCINT (power), F10 VCCINT (power), G7 VCCIO1 (power), G9 VCCINT (power), G11 VCCINT (power), H10 VCCINT (power), H12 VCCIO3 (power), J9 VCCINT (power), K10 VCCINT (power), L9 VCCINT (power), M7 VCCIO1 (power), M8 VCCINT (power), M10 VCCINT (power), M12 VCCIO3 (power), N9 VCCINT (power), N11 VCCINT (power), P1 VCCIO1 (power), P8 VCCIO4 (power), P11 VCCIO4 (power), P18 VCCIO3 (power), U1 VCCINT (power), U18 VCCINT (power), V2 VCCINT (power), V5 VCCIO4 (power), V14 VCCIO4 (power), V17 VCCINT (power)
part G pins: A1 GND (power), A3 GND (power), A16 GND (power), A18 GND (power), B2 GND (power), B17 GND (power), C1 GND (power), C18 GND (power), F9 GND (power), F11 GND (power), G8 GND (power), G10 GND (power), H8 GND (power), H9 GND (power), H11 GND (power), J8 GND (power), J10 GND (power), J11 GND (power), K8 GND (power), K9 GND (power), K11 GND (power), L8 GND (power), L10 GND (power), L11 GND (power), M9 GND (power), M11 GND (power), N8 GND (power), N10 GND (power), T1 GND (power), T18 GND (power), U2 GND (power), U17 GND (power), V1 GND (power), V3 GND (power), V16 GND (power), V18 GND (power)
part H pins: J5 VCCA_PLL1 (power), J6 GNDG_PLL1 (power), J12 VCCA_PLL2 (power), J18 GNDG_PLL2 (power), K1 GNDA_PLL1 (power), K12 GNDA_PLL2 (power)
part I pins: J3 CLK0, LVDSCLK1p (in), J4 CLK1, LVDSCLK1n (in), J15 CLK2, LVDSCLK2p (in), J16 CLK3, LVDSCLK2n (in)
part A text: BANK 1
part B text: BANK 2
part C text: BANK 3
part D text: BANK 4

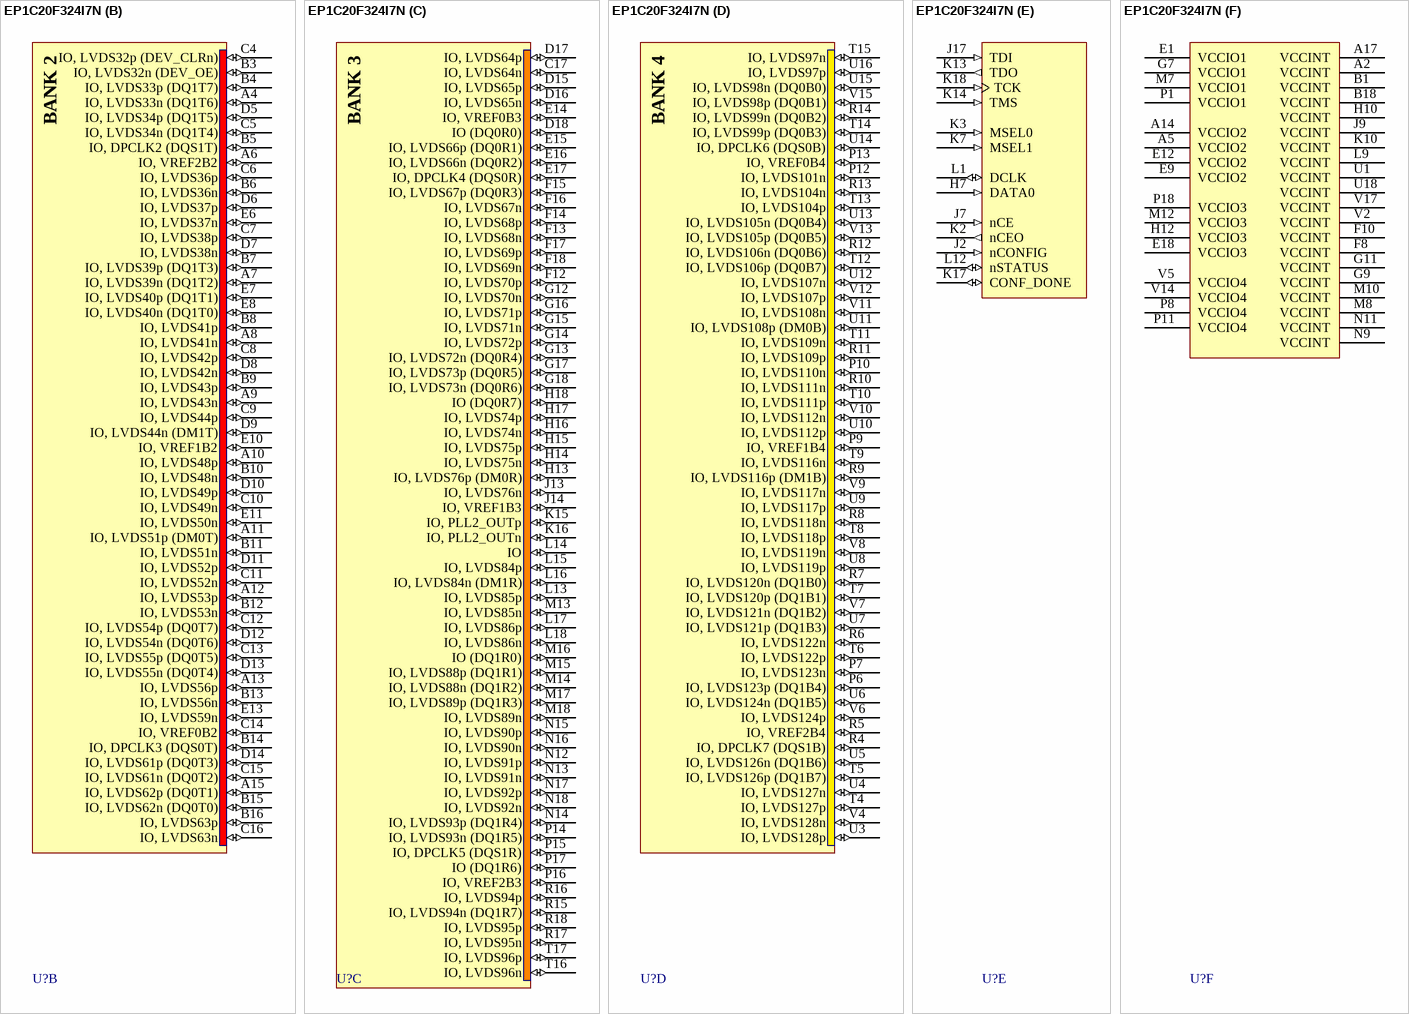
[diagram p132: symbol EP1C20F324I7N]

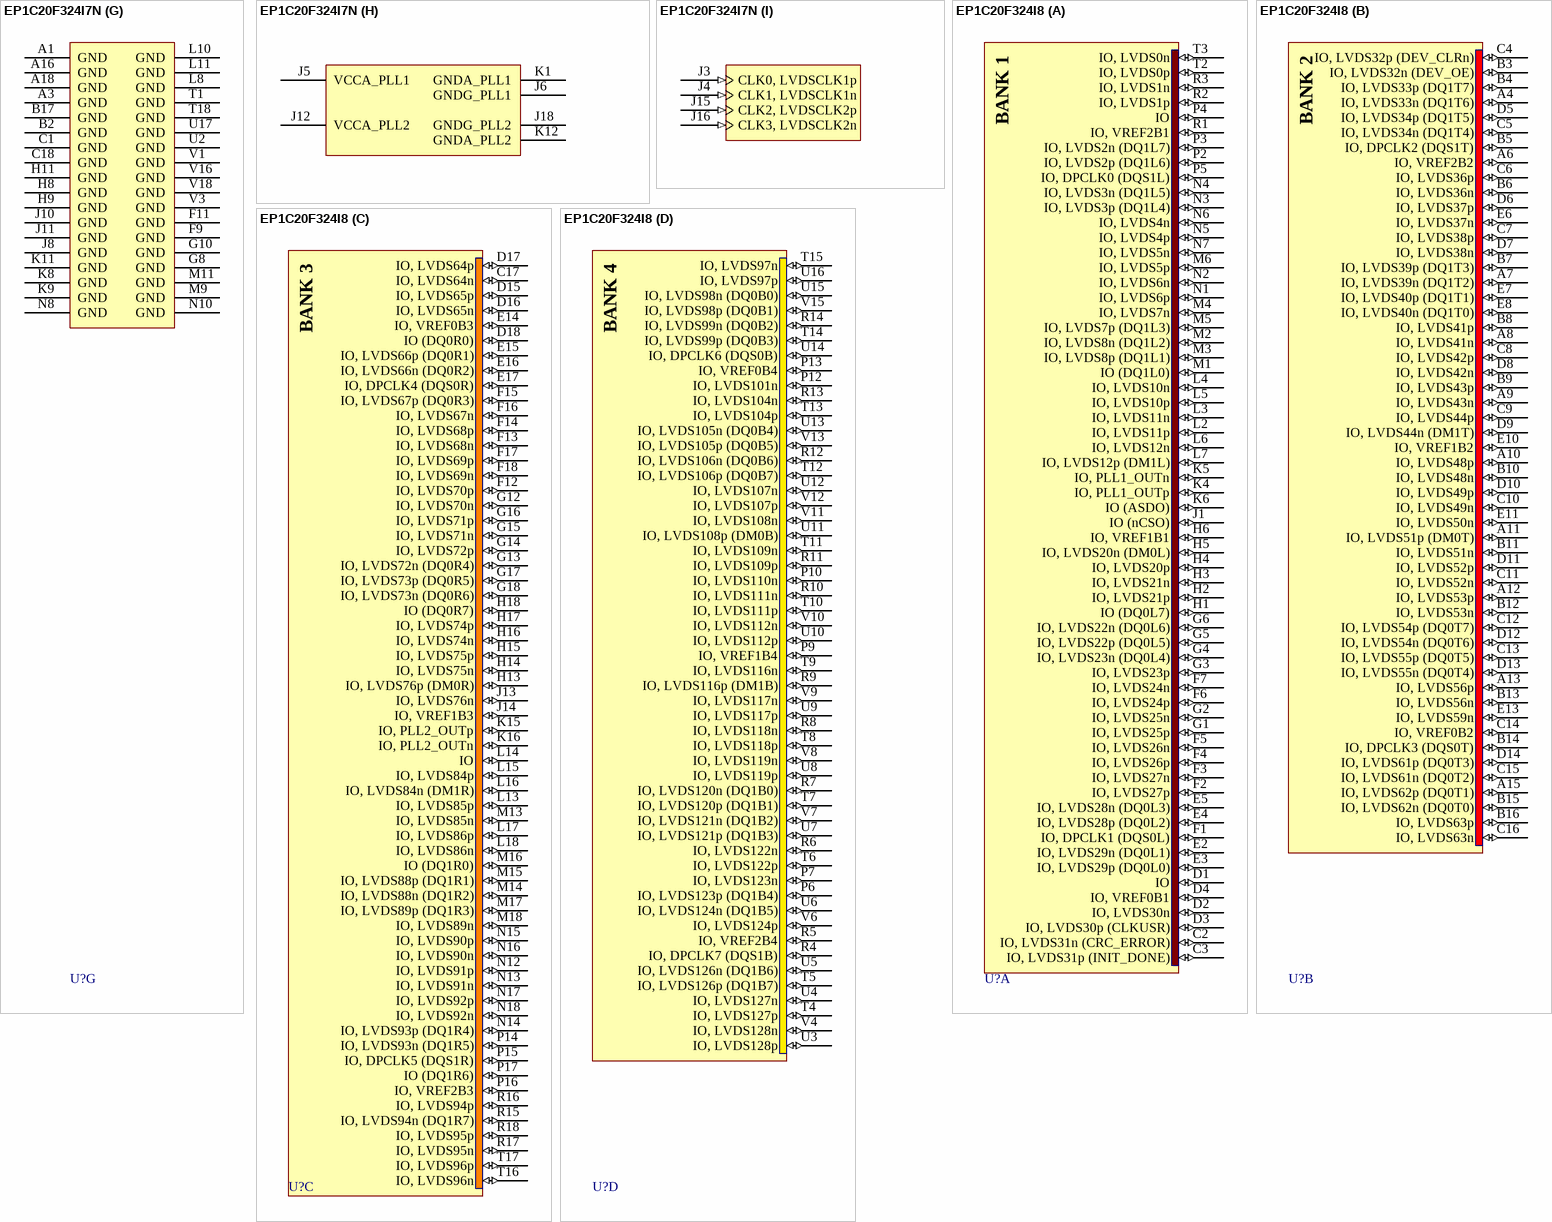
[diagram p133: symbols EP1C20F324I7N to EP1C20F324I8]